# Altium schematic symbol library MCU_Microchip_PIC18.SchLib: 172 symbols (part 1 of 4)
Pins are listed as number, name and electrical type; pins without a type are passive.

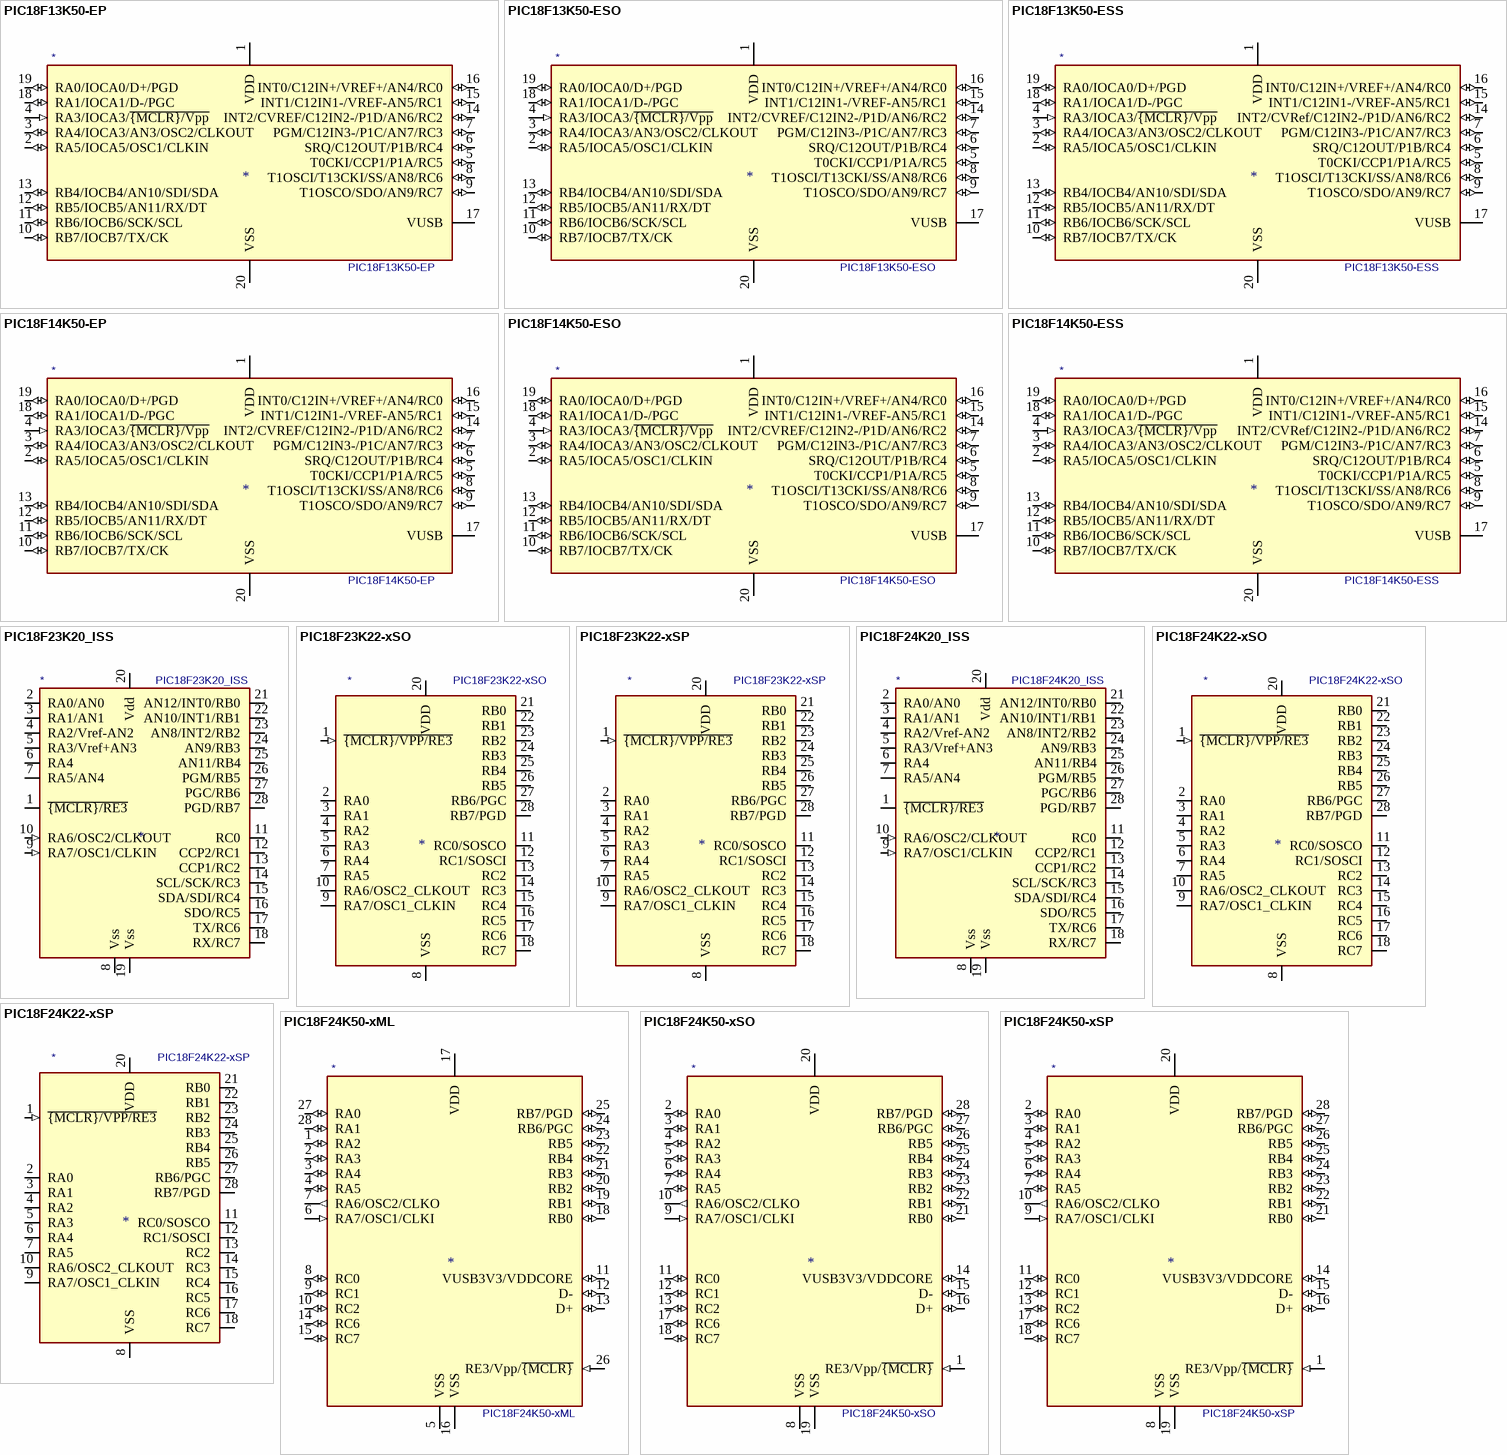
[diagram p0: symbols PIC18F13K50-EP to PIC18F24K50-xSP]

## PIC18F13K50-EP
designator *  value PIC18F13K50-EP
ki_keywords: Flash-Based 8bit CMOS Microcontroller XLP; ki_description: 8K Flash, 512 SRAM, 256 EEPROM, USB, nanoWatt XLP, DIP20; ki_fp_filters: DIP*W7.62mm* PDIP*W7.62mm*; Footprint: Package_DIP:DIP-20_W7.62mm; Supplier: http://ww1.microchip.com/downloads/en/devicedoc/41350c.pdf
footprint DIP-20_W7.62mm
pins: 1 VDD (power), 2 RA5/IOCA5/OSC1/CLKIN (io), 3 RA4/IOCA3/AN3/OSC2/CLKOUT (io), 4 RA3/IOCA3/~{{MCLR}/Vpp} (in), 5 T0CKI/CCP1/P1A/RC5 (io), 6 SRQ/C12OUT/P1B/RC4 (io), 7 PGM/C12IN3-/P1C/AN7/RC3 (io), 8 T1OSCI/T13CKI/SS/AN8/RC6 (io), 9 T1OSCO/SDO/AN9/RC7 (io), 10 RB7/IOCB7/TX/CK (io), 11 RB6/IOCB6/SCK/SCL (io), 12 RB5/IOCB5/AN11/RX/DT (io), 13 RB4/IOCB4/AN10/SDI/SDA (io), 14 INT2/CVREF/C12IN2-/P1D/AN6/RC2 (io), 15 INT1/C12IN1-/VREF-AN5/RC1 (io), 16 INT0/C12IN+/VREF+/AN4/RC0 (io), 17 VUSB, 18 RA1/IOCA1/D-/PGC (io), 19 RA0/IOCA0/D+/PGD (io), 20 VSS (power)

## PIC18F13K50-ESO
designator *  value PIC18F13K50-ESO
ki_keywords: Flash-Based 8bit CMOS Microcontroller XLP; ki_description: 8K Flash, 512 SRAM, 256 EEPROM, USB, nanoWatt XLP, SOIC20; ki_fp_filters: SOIC*W*7.5x12.8mm*P1.27mm*; Footprint: Package_SO:SOIC-20W_7.5x12.8mm_P1.27mm; Supplier: http://ww1.microchip.com/downloads/en/devicedoc/41350c.pdf
footprint SOIC-20W_7.5x12.8mm_P1.27mm
pins: 1 VDD (power), 2 RA5/IOCA5/OSC1/CLKIN (io), 3 RA4/IOCA3/AN3/OSC2/CLKOUT (io), 4 RA3/IOCA3/~{{MCLR}/Vpp} (in), 5 T0CKI/CCP1/P1A/RC5 (io), 6 SRQ/C12OUT/P1B/RC4 (io), 7 PGM/C12IN3-/P1C/AN7/RC3 (io), 8 T1OSCI/T13CKI/SS/AN8/RC6 (io), 9 T1OSCO/SDO/AN9/RC7 (io), 10 RB7/IOCB7/TX/CK (io), 11 RB6/IOCB6/SCK/SCL (io), 12 RB5/IOCB5/AN11/RX/DT (io), 13 RB4/IOCB4/AN10/SDI/SDA (io), 14 INT2/CVREF/C12IN2-/P1D/AN6/RC2 (io), 15 INT1/C12IN1-/VREF-AN5/RC1 (io), 16 INT0/C12IN+/VREF+/AN4/RC0 (io), 17 VUSB, 18 RA1/IOCA1/D-/PGC (io), 19 RA0/IOCA0/D+/PGD (io), 20 VSS (power)

## PIC18F13K50-ESS
designator *  value PIC18F13K50-ESS
ki_keywords: Flash-Based 8bit CMOS Microcontroller XLP; ki_description: 8K Flash, 512 SRAM, 256 EEPROM, USB, nanoWatt XLP, SSOP20; ki_fp_filters: SSOP*5.3x7.2mm*P0.65mm*; Footprint: Package_SO:SSOP-20_5.3x7.2mm_P0.65mm; Supplier: http://ww1.microchip.com/downloads/en/devicedoc/41350c.pdf
footprint SSOP-20_5.3x7.2mm_P0.65mm
pins: 1 VDD (power), 2 RA5/IOCA5/OSC1/CLKIN (io), 3 RA4/IOCA3/AN3/OSC2/CLKOUT (io), 4 RA3/IOCA3/~{{MCLR}/Vpp} (in), 5 T0CKI/CCP1/P1A/RC5 (io), 6 SRQ/C12OUT/P1B/RC4 (io), 7 PGM/C12IN3-/P1C/AN7/RC3 (io), 8 T1OSCI/T13CKI/SS/AN8/RC6 (io), 9 T1OSCO/SDO/AN9/RC7 (io), 10 RB7/IOCB7/TX/CK (io), 11 RB6/IOCB6/SCK/SCL (io), 12 RB5/IOCB5/AN11/RX/DT (io), 13 RB4/IOCB4/AN10/SDI/SDA (io), 14 INT2/CVRef/C12IN2-/P1D/AN6/RC2 (io), 15 INT1/C12IN1-/VREF-AN5/RC1 (io), 16 INT0/C12IN+/VREF+/AN4/RC0 (io), 17 VUSB, 18 RA1/IOCA1/D-/PGC (io), 19 RA0/IOCA0/D+/PGD (io), 20 VSS (power)

## PIC18F14K50-EP
designator *  value PIC18F14K50-EP
ki_keywords: Flash-Based 8bit CMOS Microcontroller XLP; ki_description: 16K Flash, 768 SRAM, 256 EEPROM, USB, nanoWatt XLP, DIP20; ki_fp_filters: DIP*W7.62mm* PDIP*W7.62mm*; Footprint: Package_DIP:DIP-20_W7.62mm; Supplier: http://ww1.microchip.com/downloads/en/devicedoc/41350c.pdf
footprint DIP-20_W7.62mm
pins: 1 VDD (power), 2 RA5/IOCA5/OSC1/CLKIN (io), 3 RA4/IOCA3/AN3/OSC2/CLKOUT (io), 4 RA3/IOCA3/~{{MCLR}/Vpp} (in), 5 T0CKI/CCP1/P1A/RC5 (io), 6 SRQ/C12OUT/P1B/RC4 (io), 7 PGM/C12IN3-/P1C/AN7/RC3 (io), 8 T1OSCI/T13CKI/SS/AN8/RC6 (io), 9 T1OSCO/SDO/AN9/RC7 (io), 10 RB7/IOCB7/TX/CK (io), 11 RB6/IOCB6/SCK/SCL (io), 12 RB5/IOCB5/AN11/RX/DT (io), 13 RB4/IOCB4/AN10/SDI/SDA (io), 14 INT2/CVREF/C12IN2-/P1D/AN6/RC2 (io), 15 INT1/C12IN1-/VREF-AN5/RC1 (io), 16 INT0/C12IN+/VREF+/AN4/RC0 (io), 17 VUSB, 18 RA1/IOCA1/D-/PGC (io), 19 RA0/IOCA0/D+/PGD (io), 20 VSS (power)

## PIC18F14K50-ESO
designator *  value PIC18F14K50-ESO
ki_keywords: Flash-Based 8bit CMOS Microcontroller XLP; ki_description: 16K Flash, 768 SRAM, 256 EEPROM, USB, nanoWatt XLP, SOIC20; ki_fp_filters: SOIC*W*7.5x12.8mm*P1.27mm*; Footprint: Package_SO:SOIC-20W_7.5x12.8mm_P1.27mm; Supplier: http://ww1.microchip.com/downloads/en/devicedoc/41350c.pdf
footprint SOIC-20W_7.5x12.8mm_P1.27mm
pins: 1 VDD (power), 2 RA5/IOCA5/OSC1/CLKIN (io), 3 RA4/IOCA3/AN3/OSC2/CLKOUT (io), 4 RA3/IOCA3/~{{MCLR}/Vpp} (in), 5 T0CKI/CCP1/P1A/RC5 (io), 6 SRQ/C12OUT/P1B/RC4 (io), 7 PGM/C12IN3-/P1C/AN7/RC3 (io), 8 T1OSCI/T13CKI/SS/AN8/RC6 (io), 9 T1OSCO/SDO/AN9/RC7 (io), 10 RB7/IOCB7/TX/CK (io), 11 RB6/IOCB6/SCK/SCL (io), 12 RB5/IOCB5/AN11/RX/DT (io), 13 RB4/IOCB4/AN10/SDI/SDA (io), 14 INT2/CVREF/C12IN2-/P1D/AN6/RC2 (io), 15 INT1/C12IN1-/VREF-AN5/RC1 (io), 16 INT0/C12IN+/VREF+/AN4/RC0 (io), 17 VUSB, 18 RA1/IOCA1/D-/PGC (io), 19 RA0/IOCA0/D+/PGD (io), 20 VSS (power)

## PIC18F14K50-ESS
designator *  value PIC18F14K50-ESS
ki_keywords: Flash-Based 8bit CMOS Microcontroller XLP; ki_description: 16K Flash, 768 SRAM, 256 EEPROM, USB, nanoWatt XLP, SSOP20; ki_fp_filters: SSOP*5.3x7.2mm*P0.65mm*; Footprint: Package_SO:SSOP-20_5.3x7.2mm_P0.65mm; Supplier: http://ww1.microchip.com/downloads/en/devicedoc/41350c.pdf
footprint SSOP-20_5.3x7.2mm_P0.65mm
pins: 1 VDD (power), 2 RA5/IOCA5/OSC1/CLKIN (io), 3 RA4/IOCA3/AN3/OSC2/CLKOUT (io), 4 RA3/IOCA3/~{{MCLR}/Vpp} (in), 5 T0CKI/CCP1/P1A/RC5 (io), 6 SRQ/C12OUT/P1B/RC4 (io), 7 PGM/C12IN3-/P1C/AN7/RC3 (io), 8 T1OSCI/T13CKI/SS/AN8/RC6 (io), 9 T1OSCO/SDO/AN9/RC7 (io), 10 RB7/IOCB7/TX/CK (io), 11 RB6/IOCB6/SCK/SCL (io), 12 RB5/IOCB5/AN11/RX/DT (io), 13 RB4/IOCB4/AN10/SDI/SDA (io), 14 INT2/CVRef/C12IN2-/P1D/AN6/RC2 (io), 15 INT1/C12IN1-/VREF-AN5/RC1 (io), 16 INT0/C12IN+/VREF+/AN4/RC0 (io), 17 VUSB, 18 RA1/IOCA1/D-/PGC (io), 19 RA0/IOCA0/D+/PGD (io), 20 VSS (power)

## PIC18F23K20_ISS
designator *  value PIC18F23K20_ISS
ki_keywords: microcontroller PIC18F flash XLP; ki_description: 8K Flash, 512Byte RAM, 256Byte EEPROM, PIC18 Microcontroller ADC PWM SPI I2C USART in SSOP28 package; ki_fp_filters: SSOP*5.3x10.2mm*P0.65mm*; Footprint: Package_SO:SSOP-28_5.3x10.2mm_P0.65mm; Supplier: http://ww1.microchip.com/downloads/en/DeviceDoc/40001303H.pdf
footprint SSOP-28_5.3x10.2mm_P0.65mm
pins: 1 ~{{MCLR}/RE3} (io), 2 RA0/AN0 (io), 3 RA1/AN1 (io), 4 RA2/Vref-AN2 (io), 5 RA3/Vref+AN3 (io), 6 RA4 (power), 7 RA5/AN4 (io), 8 Vss (power), 9 RA7/OSC1/CLKIN (in), 10 RA6/OSC2/CLKOUT (in), 11 RC0 (io), 12 CCP2/RC1 (io), 13 CCP1/RC2 (io), 14 SCL/SCK/RC3 (io), 15 SDA/SDI/RC4 (io), 16 SDO/RC5 (io), 17 TX/RC6 (io), 18 RX/RC7 (io), 19 Vss (power), 20 Vdd (power), 21 AN12/INT0/RB0 (io), 22 AN10/INT1/RB1 (io), 23 AN8/INT2/RB2 (io), 24 AN9/RB3 (io), 25 AN11/RB4 (io), 26 PGM/RB5 (io), 27 PGC/RB6 (io), 28 PGD/RB7 (io)

## PIC18F23K22-xSO
designator *  value PIC18F23K22-xSO
ki_keywords: Flash-Based 8-Bit Microcontroller XLP; ki_description: 8K Flash, 512B SRAM, 256B EEPROM, nanoWatt XLP, 2.3V to 5.5V, SOIC28; ki_fp_filters: SO*W*7.5x17.9mm*P1.27mm*; Footprint: Package_SO:SOIC-28W_7.5x17.9mm_P1.27mm; Supplier: http://ww1.microchip.com/downloads/en/DeviceDoc/40001412G.pdf
footprint SOIC-28W_7.5x17.9mm_P1.27mm
pins: 1 ~{{MCLR}/VPP/RE3} (in), 2 RA0 (io), 3 RA1 (io), 4 RA2 (io), 5 RA3 (io), 6 RA4 (io), 7 RA5 (io), 8 VSS (power), 9 RA7/OSC1_CLKIN (io), 10 RA6/OSC2_CLKOUT (io), 11 RC0/SOSCO (io), 12 RC1/SOSCI (io), 13 RC2 (io), 14 RC3 (io), 15 RC4 (io), 16 RC5 (io), 17 RC6 (io), 18 RC7 (io), 19 VSS hidden, 20 VDD (power), 21 RB0 (io), 22 RB1 (io), 23 RB2 (io), 24 RB3 (io), 25 RB4 (io), 26 RB5 (io), 27 RB6/PGC (io), 28 RB7/PGD (io)

## PIC18F23K22-xSP
designator *  value PIC18F23K22-xSP
ki_keywords: Flash-Based 8-Bit Microcontroller XLP; ki_description: 8K Flash, 512B SRAM, 256B EEPROM, nanoWatt XLP, 2.3V to 5.5V, SPDIP28; ki_fp_filters: DIP*W7.62mm*; Footprint: Package_DIP:DIP-28_W7.62mm; Supplier: http://ww1.microchip.com/downloads/en/DeviceDoc/40001412G.pdf
footprint DIP-28_W7.62mm
pins: 1 ~{{MCLR}/VPP/RE3} (in), 2 RA0 (io), 3 RA1 (io), 4 RA2 (io), 5 RA3 (io), 6 RA4 (io), 7 RA5 (io), 8 VSS (power), 9 RA7/OSC1_CLKIN (io), 10 RA6/OSC2_CLKOUT (io), 11 RC0/SOSCO (io), 12 RC1/SOSCI (io), 13 RC2 (io), 14 RC3 (io), 15 RC4 (io), 16 RC5 (io), 17 RC6 (io), 18 RC7 (io), 19 VSS hidden, 20 VDD (power), 21 RB0 (io), 22 RB1 (io), 23 RB2 (io), 24 RB3 (io), 25 RB4 (io), 26 RB5 (io), 27 RB6/PGC (io), 28 RB7/PGD (io)

## PIC18F24K20_ISS
designator *  value PIC18F24K20_ISS
ki_keywords: microcontroller PIC18F flash XLP; ki_description: 16K Flash, 768Byte RAM, 256Byte EEPROM, PIC18 Microcontroller ADC PWM SPI I2C USART in SSOP28 package; ki_fp_filters: SSOP*5.3x10.2mm*P0.65mm*; Footprint: Package_SO:SSOP-28_5.3x10.2mm_P0.65mm; Supplier: http://ww1.microchip.com/downloads/en/DeviceDoc/40001303H.pdf
footprint SSOP-28_5.3x10.2mm_P0.65mm
pins: 1 ~{{MCLR}/RE3} (io), 2 RA0/AN0 (io), 3 RA1/AN1 (io), 4 RA2/Vref-AN2 (io), 5 RA3/Vref+AN3 (io), 6 RA4 (power), 7 RA5/AN4 (io), 8 Vss (power), 9 RA7/OSC1/CLKIN (in), 10 RA6/OSC2/CLKOUT (in), 11 RC0 (io), 12 CCP2/RC1 (io), 13 CCP1/RC2 (io), 14 SCL/SCK/RC3 (io), 15 SDA/SDI/RC4 (io), 16 SDO/RC5 (io), 17 TX/RC6 (io), 18 RX/RC7 (io), 19 Vss (power), 20 Vdd (power), 21 AN12/INT0/RB0 (io), 22 AN10/INT1/RB1 (io), 23 AN8/INT2/RB2 (io), 24 AN9/RB3 (io), 25 AN11/RB4 (io), 26 PGM/RB5 (io), 27 PGC/RB6 (io), 28 PGD/RB7 (io)

## PIC18F24K22-xSO
designator *  value PIC18F24K22-xSO
ki_keywords: Flash-Based 8-Bit Microcontroller XLP; ki_description: 16K Flash, 768B SRAM, 256B EEPROM, nanoWatt XLP, 2.3V to 5.5V, SOIC28; ki_fp_filters: SO*W*7.5x17.9mm*P1.27mm*; Footprint: Package_SO:SOIC-28W_7.5x17.9mm_P1.27mm; Supplier: http://ww1.microchip.com/downloads/en/DeviceDoc/40001412G.pdf
footprint SOIC-28W_7.5x17.9mm_P1.27mm
pins: 1 ~{{MCLR}/VPP/RE3} (in), 2 RA0 (io), 3 RA1 (io), 4 RA2 (io), 5 RA3 (io), 6 RA4 (io), 7 RA5 (io), 8 VSS (power), 9 RA7/OSC1_CLKIN (io), 10 RA6/OSC2_CLKOUT (io), 11 RC0/SOSCO (io), 12 RC1/SOSCI (io), 13 RC2 (io), 14 RC3 (io), 15 RC4 (io), 16 RC5 (io), 17 RC6 (io), 18 RC7 (io), 19 VSS hidden, 20 VDD (power), 21 RB0 (io), 22 RB1 (io), 23 RB2 (io), 24 RB3 (io), 25 RB4 (io), 26 RB5 (io), 27 RB6/PGC (io), 28 RB7/PGD (io)

## PIC18F24K22-xSP
designator *  value PIC18F24K22-xSP
ki_keywords: Flash-Based 8-Bit Microcontroller XLP; ki_description: 16K Flash, 768B SRAM, 256B EEPROM, nanoWatt XLP, 2.3V to 5.5V, SPDIP28; ki_fp_filters: DIP*W7.62mm*; Footprint: Package_DIP:DIP-28_W7.62mm; Supplier: http://ww1.microchip.com/downloads/en/DeviceDoc/40001412G.pdf
footprint DIP-28_W7.62mm
pins: 1 ~{{MCLR}/VPP/RE3} (in), 2 RA0 (io), 3 RA1 (io), 4 RA2 (io), 5 RA3 (io), 6 RA4 (io), 7 RA5 (io), 8 VSS (power), 9 RA7/OSC1_CLKIN (io), 10 RA6/OSC2_CLKOUT (io), 11 RC0/SOSCO (io), 12 RC1/SOSCI (io), 13 RC2 (io), 14 RC3 (io), 15 RC4 (io), 16 RC5 (io), 17 RC6 (io), 18 RC7 (io), 19 VSS hidden, 20 VDD (power), 21 RB0 (io), 22 RB1 (io), 23 RB2 (io), 24 RB3 (io), 25 RB4 (io), 26 RB5 (io), 27 RB6/PGC (io), 28 RB7/PGD (io)

## PIC18F24K50-xML
designator *  value PIC18F24K50-xML
ki_keywords: Flash-Based 8-Bit Microcontroller XLP; ki_description: 16K Flash, 2K SRAM, 256 EEPROM, USB, nanoWatt XLP, 2.3V to 5.5V, QFN28; ki_fp_filters: QFN*1EP*6x6mm*P0.65mm*; Footprint: Package_DFN_QFN:QFN-28-1EP_6x6mm_P0.65mm_EP4.25x4.25mm; Supplier: http://ww1.microchip.com/downloads/en/devicedoc/30000684B.pdf
footprint QFN-28-1EP_6x6mm_P0.65mm_EP4.25x4.25mm
pins: 1 RA2 (io), 2 RA3 (io), 3 RA4 (io), 4 RA5 (io), 5 VSS (power), 6 RA7/OSC1/CLKI (in), 7 RA6/OSC2/CLKO (out), 8 RC0 (io), 9 RC1 (io), 10 RC2 (io), 11 VUSB3V3/VDDCORE (io), 12 D- (io), 13 D+ (io), 14 RC6 (io), 15 RC7 (io), 16 VSS (power), 17 VDD (power), 18 RB0 (io), 19 RB1 (io), 20 RB2 (io), 21 RB3 (io), 22 RB4 (io), 23 RB5 (io), 24 RB6/PGC (io), 25 RB7/PGD (io), 26 RE3/Vpp/~{{MCLR}} (in), 27 RA0 (io), 28 RA1 (io)

## PIC18F24K50-xSO
designator *  value PIC18F24K50-xSO
ki_keywords: Flash-Based 8-Bit Microcontroller XLP; ki_description: 16K Flash, 2K SRAM, 256 EEPROM, USB, nanoWatt XLP, 2.3V to 5.5V, SOIC28; ki_fp_filters: SO*W*7.5x17.9mm*P1.27mm*; Footprint: Package_SO:SOIC-28W_7.5x17.9mm_P1.27mm; Supplier: http://ww1.microchip.com/downloads/en/devicedoc/30000684B.pdf
footprint SOIC-28W_7.5x17.9mm_P1.27mm
pins: 1 RE3/Vpp/~{{MCLR}} (in), 2 RA0 (io), 3 RA1 (io), 4 RA2 (io), 5 RA3 (io), 6 RA4 (io), 7 RA5 (io), 8 VSS (power), 9 RA7/OSC1/CLKI (in), 10 RA6/OSC2/CLKO (out), 11 RC0 (io), 12 RC1 (io), 13 RC2 (io), 14 VUSB3V3/VDDCORE (io), 15 D- (io), 16 D+ (io), 17 RC6 (io), 18 RC7 (io), 19 VSS (power), 20 VDD (power), 21 RB0 (io), 22 RB1 (io), 23 RB2 (io), 24 RB3 (io), 25 RB4 (io), 26 RB5 (io), 27 RB6/PGC (io), 28 RB7/PGD (io)

## PIC18F24K50-xSP
designator *  value PIC18F24K50-xSP
ki_keywords: Flash-Based 8-Bit Microcontroller XLP; ki_description: 16K Flash, 2K SRAM, 256 EEPROM, USB, nanoWatt XLP, 2.3V to 5.5V, SPDIP28; ki_fp_filters: SPDIP*W7.62mm* DIP*W7.62mm* PDIP*W7.62mm*; Footprint: Package_DIP:DIP-28_W7.62mm; Supplier: http://ww1.microchip.com/downloads/en/devicedoc/30000684B.pdf
footprint DIP-28_W7.62mm
pins: 1 RE3/Vpp/~{{MCLR}} (in), 2 RA0 (io), 3 RA1 (io), 4 RA2 (io), 5 RA3 (io), 6 RA4 (io), 7 RA5 (io), 8 VSS (power), 9 RA7/OSC1/CLKI (in), 10 RA6/OSC2/CLKO (out), 11 RC0 (io), 12 RC1 (io), 13 RC2 (io), 14 VUSB3V3/VDDCORE (io), 15 D- (io), 16 D+ (io), 17 RC6 (io), 18 RC7 (io), 19 VSS (power), 20 VDD (power), 21 RB0 (io), 22 RB1 (io), 23 RB2 (io), 24 RB3 (io), 25 RB4 (io), 26 RB5 (io), 27 RB6/PGC (io), 28 RB7/PGD (io)

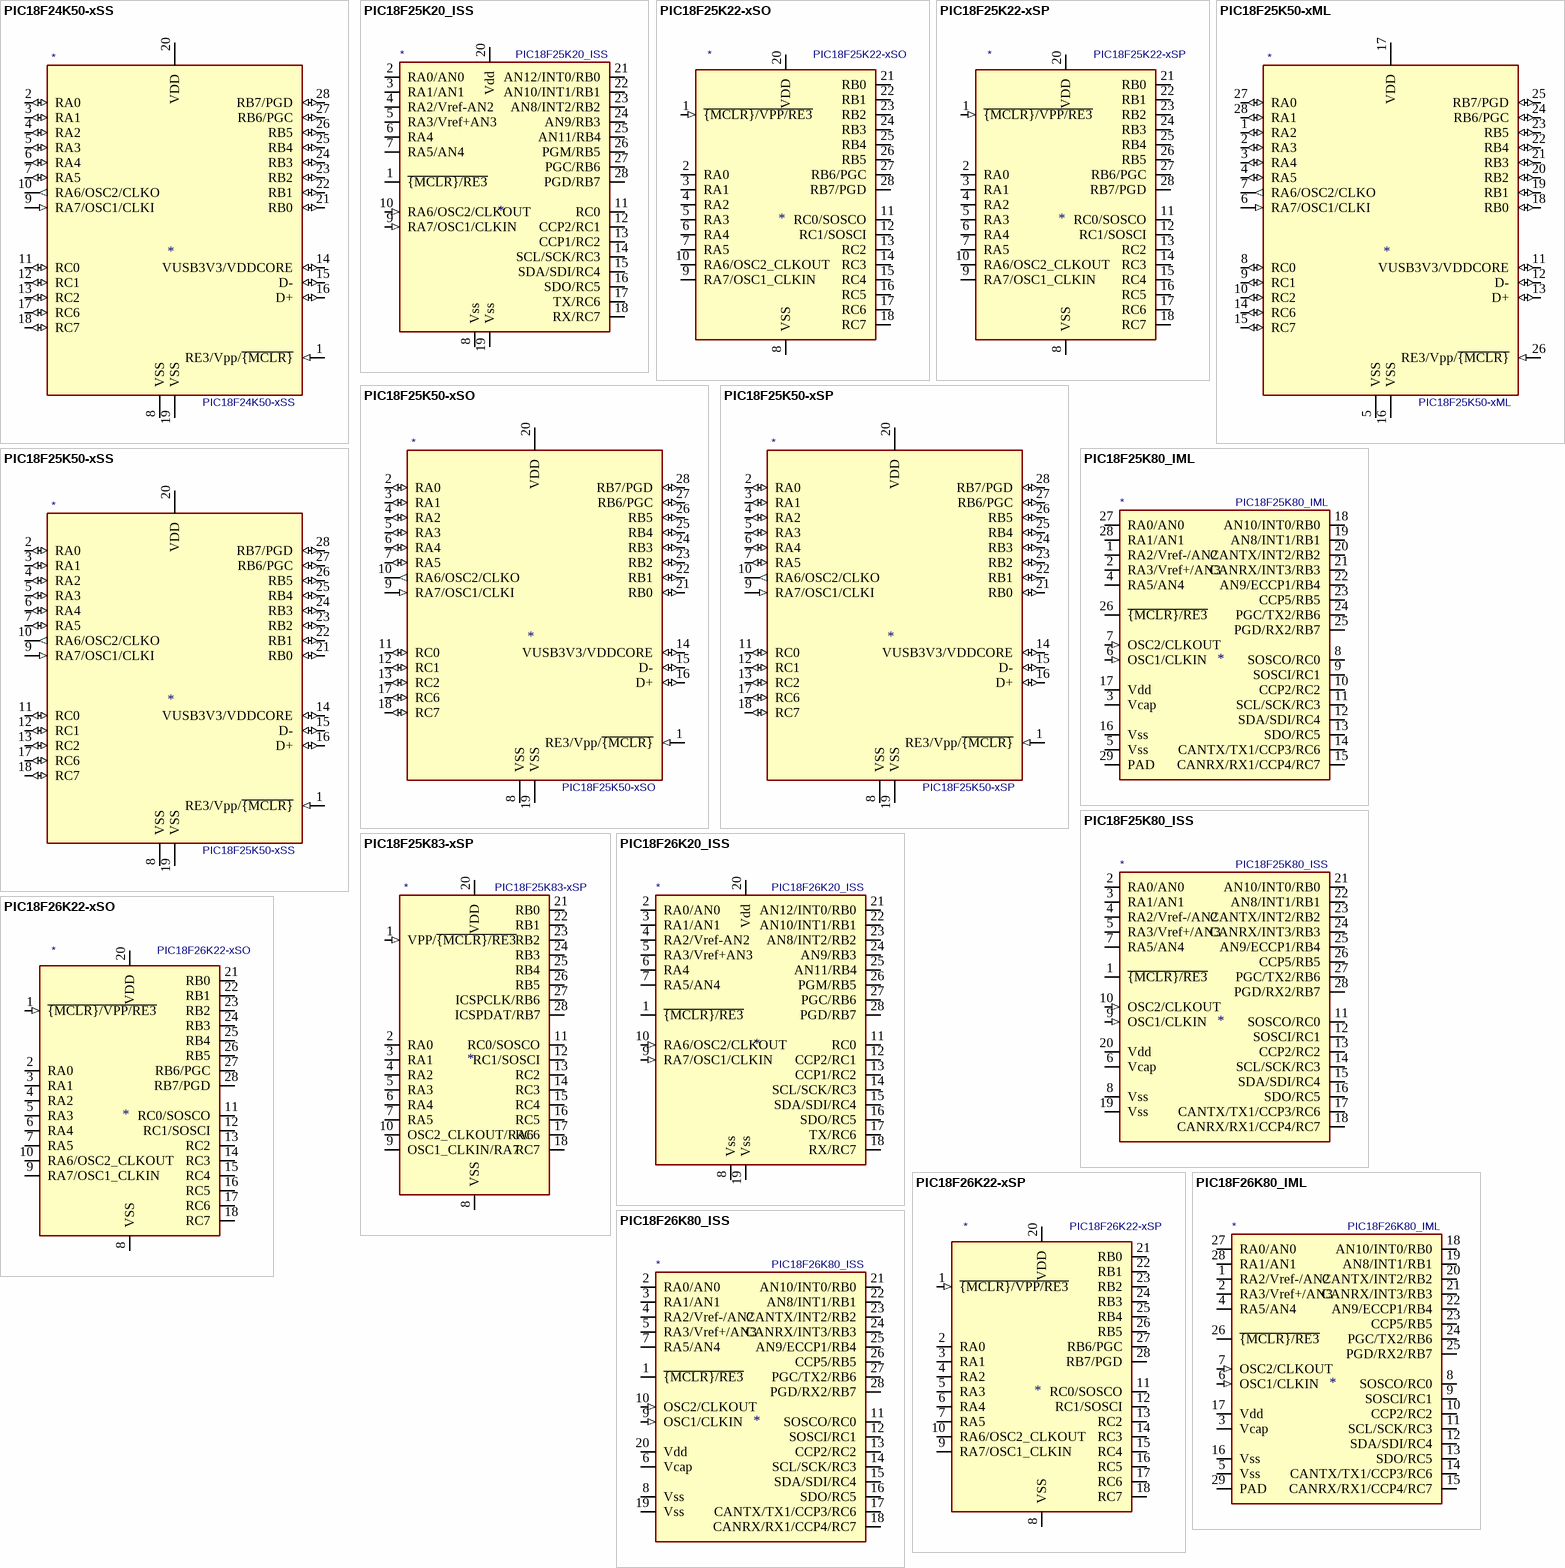
[diagram p1: symbols PIC18F24K50-xSS to PIC18F26K80_ISS]

## PIC18F24K50-xSS
designator *  value PIC18F24K50-xSS
ki_keywords: Flash-Based 8-Bit Microcontroller XLP; ki_description: 16K Flash, 2K SRAM, 256 EEPROM, USB, nanoWatt XLP, 2.3V to 5.5V, SSOP28; ki_fp_filters: SSOP*5.3x10.2mm*P0.65mm*; Footprint: Package_SO:SSOP-28_5.3x10.2mm_P0.65mm; Supplier: http://ww1.microchip.com/downloads/en/devicedoc/30000684B.pdf
footprint SSOP-28_5.3x10.2mm_P0.65mm
pins: 1 RE3/Vpp/~{{MCLR}} (in), 2 RA0 (io), 3 RA1 (io), 4 RA2 (io), 5 RA3 (io), 6 RA4 (io), 7 RA5 (io), 8 VSS (power), 9 RA7/OSC1/CLKI (in), 10 RA6/OSC2/CLKO (out), 11 RC0 (io), 12 RC1 (io), 13 RC2 (io), 14 VUSB3V3/VDDCORE (io), 15 D- (io), 16 D+ (io), 17 RC6 (io), 18 RC7 (io), 19 VSS (power), 20 VDD (power), 21 RB0 (io), 22 RB1 (io), 23 RB2 (io), 24 RB3 (io), 25 RB4 (io), 26 RB5 (io), 27 RB6/PGC (io), 28 RB7/PGD (io)

## PIC18F25K20_ISS
designator *  value PIC18F25K20_ISS
ki_keywords: microcontroller PIC18F flash XLP; ki_description: 32K Flash, 1536Byte RAM, 256Byte EEPROM, PIC18 Microcontroller ADC PWM SPI I2C USART in SSOP28 package; ki_fp_filters: SSOP*5.3x10.2mm*P0.65mm*; Footprint: Package_SO:SSOP-28_5.3x10.2mm_P0.65mm; Supplier: http://ww1.microchip.com/downloads/en/DeviceDoc/40001303H.pdf
footprint SSOP-28_5.3x10.2mm_P0.65mm
pins: 1 ~{{MCLR}/RE3} (io), 2 RA0/AN0 (io), 3 RA1/AN1 (io), 4 RA2/Vref-AN2 (io), 5 RA3/Vref+AN3 (io), 6 RA4 (power), 7 RA5/AN4 (io), 8 Vss (power), 9 RA7/OSC1/CLKIN (in), 10 RA6/OSC2/CLKOUT (in), 11 RC0 (io), 12 CCP2/RC1 (io), 13 CCP1/RC2 (io), 14 SCL/SCK/RC3 (io), 15 SDA/SDI/RC4 (io), 16 SDO/RC5 (io), 17 TX/RC6 (io), 18 RX/RC7 (io), 19 Vss (power), 20 Vdd (power), 21 AN12/INT0/RB0 (io), 22 AN10/INT1/RB1 (io), 23 AN8/INT2/RB2 (io), 24 AN9/RB3 (io), 25 AN11/RB4 (io), 26 PGM/RB5 (io), 27 PGC/RB6 (io), 28 PGD/RB7 (io)

## PIC18F25K22-xSO
designator *  value PIC18F25K22-xSO
ki_keywords: Flash-Based 8-Bit Microcontroller XLP; ki_description: 32K Flash, 1536B SRAM, 256B EEPROM, nanoWatt XLP, 2.3V to 5.5V, SOIC28; ki_fp_filters: SO*W*7.5x17.9mm*P1.27mm*; Footprint: Package_SO:SOIC-28W_7.5x17.9mm_P1.27mm; Supplier: http://ww1.microchip.com/downloads/en/DeviceDoc/40001412G.pdf
footprint SOIC-28W_7.5x17.9mm_P1.27mm
pins: 1 ~{{MCLR}/VPP/RE3} (in), 2 RA0 (io), 3 RA1 (io), 4 RA2 (io), 5 RA3 (io), 6 RA4 (io), 7 RA5 (io), 8 VSS (power), 9 RA7/OSC1_CLKIN (io), 10 RA6/OSC2_CLKOUT (io), 11 RC0/SOSCO (io), 12 RC1/SOSCI (io), 13 RC2 (io), 14 RC3 (io), 15 RC4 (io), 16 RC5 (io), 17 RC6 (io), 18 RC7 (io), 19 VSS hidden, 20 VDD (power), 21 RB0 (io), 22 RB1 (io), 23 RB2 (io), 24 RB3 (io), 25 RB4 (io), 26 RB5 (io), 27 RB6/PGC (io), 28 RB7/PGD (io)

## PIC18F25K22-xSP
designator *  value PIC18F25K22-xSP
ki_keywords: Flash-Based 8-Bit Microcontroller XLP; ki_description: 32K Flash, 1536B SRAM, 256B EEPROM, nanoWatt XLP, 2.3V to 5.5V, SPDIP28; ki_fp_filters: DIP*W7.62mm*; Footprint: Package_DIP:DIP-28_W7.62mm; Supplier: http://ww1.microchip.com/downloads/en/DeviceDoc/40001412G.pdf
footprint DIP-28_W7.62mm
pins: 1 ~{{MCLR}/VPP/RE3} (in), 2 RA0 (io), 3 RA1 (io), 4 RA2 (io), 5 RA3 (io), 6 RA4 (io), 7 RA5 (io), 8 VSS (power), 9 RA7/OSC1_CLKIN (io), 10 RA6/OSC2_CLKOUT (io), 11 RC0/SOSCO (io), 12 RC1/SOSCI (io), 13 RC2 (io), 14 RC3 (io), 15 RC4 (io), 16 RC5 (io), 17 RC6 (io), 18 RC7 (io), 19 VSS hidden, 20 VDD (power), 21 RB0 (io), 22 RB1 (io), 23 RB2 (io), 24 RB3 (io), 25 RB4 (io), 26 RB5 (io), 27 RB6/PGC (io), 28 RB7/PGD (io)

## PIC18F25K50-xML
designator *  value PIC18F25K50-xML
ki_keywords: Flash-Based 8-Bit Microcontroller XLP; ki_description: 32K Flash, 2K SRAM, 256 EEPROM, USB, nanoWatt XLP, 2.3V to 5.5V, QFN28; ki_fp_filters: QFN*1EP*6x6mm*P0.65mm*; Footprint: Package_DFN_QFN:QFN-28-1EP_6x6mm_P0.65mm_EP4.25x4.25mm; Supplier: http://ww1.microchip.com/downloads/en/devicedoc/30000684B.pdf
footprint QFN-28-1EP_6x6mm_P0.65mm_EP4.25x4.25mm
pins: 1 RA2 (io), 2 RA3 (io), 3 RA4 (io), 4 RA5 (io), 5 VSS (power), 6 RA7/OSC1/CLKI (in), 7 RA6/OSC2/CLKO (out), 8 RC0 (io), 9 RC1 (io), 10 RC2 (io), 11 VUSB3V3/VDDCORE (io), 12 D- (io), 13 D+ (io), 14 RC6 (io), 15 RC7 (io), 16 VSS (power), 17 VDD (power), 18 RB0 (io), 19 RB1 (io), 20 RB2 (io), 21 RB3 (io), 22 RB4 (io), 23 RB5 (io), 24 RB6/PGC (io), 25 RB7/PGD (io), 26 RE3/Vpp/~{{MCLR}} (in), 27 RA0 (io), 28 RA1 (io)

## PIC18F25K50-xSO
designator *  value PIC18F25K50-xSO
ki_keywords: Flash-Based 8-Bit Microcontroller XLP; ki_description: 32K Flash, 2K SRAM, 256 EEPROM, USB, nanoWatt XLP, 2.3V to 5.5V, SOIC28; ki_fp_filters: SO*W*7.5x17.9mm*P1.27mm*; Footprint: Package_SO:SOIC-28W_7.5x17.9mm_P1.27mm; Supplier: http://ww1.microchip.com/downloads/en/devicedoc/30000684B.pdf
footprint SOIC-28W_7.5x17.9mm_P1.27mm
pins: 1 RE3/Vpp/~{{MCLR}} (in), 2 RA0 (io), 3 RA1 (io), 4 RA2 (io), 5 RA3 (io), 6 RA4 (io), 7 RA5 (io), 8 VSS (power), 9 RA7/OSC1/CLKI (in), 10 RA6/OSC2/CLKO (out), 11 RC0 (io), 12 RC1 (io), 13 RC2 (io), 14 VUSB3V3/VDDCORE (io), 15 D- (io), 16 D+ (io), 17 RC6 (io), 18 RC7 (io), 19 VSS (power), 20 VDD (power), 21 RB0 (io), 22 RB1 (io), 23 RB2 (io), 24 RB3 (io), 25 RB4 (io), 26 RB5 (io), 27 RB6/PGC (io), 28 RB7/PGD (io)

## PIC18F25K50-xSP
designator *  value PIC18F25K50-xSP
ki_keywords: Flash-Based 8-Bit Microcontroller XLP; ki_description: 32K Flash, 2K SRAM, 256 EEPROM, USB, nanoWatt XLP, 2.3V to 5.5V, SPDIP28; ki_fp_filters: SPDIP*W7.62mm* DIP*W7.62mm* PDIP*W7.62mm*; Footprint: Package_DIP:DIP-28_W7.62mm; Supplier: http://ww1.microchip.com/downloads/en/devicedoc/30000684B.pdf
footprint DIP-28_W7.62mm
pins: 1 RE3/Vpp/~{{MCLR}} (in), 2 RA0 (io), 3 RA1 (io), 4 RA2 (io), 5 RA3 (io), 6 RA4 (io), 7 RA5 (io), 8 VSS (power), 9 RA7/OSC1/CLKI (in), 10 RA6/OSC2/CLKO (out), 11 RC0 (io), 12 RC1 (io), 13 RC2 (io), 14 VUSB3V3/VDDCORE (io), 15 D- (io), 16 D+ (io), 17 RC6 (io), 18 RC7 (io), 19 VSS (power), 20 VDD (power), 21 RB0 (io), 22 RB1 (io), 23 RB2 (io), 24 RB3 (io), 25 RB4 (io), 26 RB5 (io), 27 RB6/PGC (io), 28 RB7/PGD (io)

## PIC18F25K50-xSS
designator *  value PIC18F25K50-xSS
ki_keywords: Flash-Based 8-Bit Microcontroller XLP; ki_description: 32K Flash, 2K SRAM, 256 EEPROM, USB, nanoWatt XLP, 2.3V to 5.5V, SSOP28; ki_fp_filters: SSOP*5.3x10.2mm*P0.65mm*; Footprint: Package_SO:SSOP-28_5.3x10.2mm_P0.65mm; Supplier: http://ww1.microchip.com/downloads/en/devicedoc/30000684B.pdf
footprint SSOP-28_5.3x10.2mm_P0.65mm
pins: 1 RE3/Vpp/~{{MCLR}} (in), 2 RA0 (io), 3 RA1 (io), 4 RA2 (io), 5 RA3 (io), 6 RA4 (io), 7 RA5 (io), 8 VSS (power), 9 RA7/OSC1/CLKI (in), 10 RA6/OSC2/CLKO (out), 11 RC0 (io), 12 RC1 (io), 13 RC2 (io), 14 VUSB3V3/VDDCORE (io), 15 D- (io), 16 D+ (io), 17 RC6 (io), 18 RC7 (io), 19 VSS (power), 20 VDD (power), 21 RB0 (io), 22 RB1 (io), 23 RB2 (io), 24 RB3 (io), 25 RB4 (io), 26 RB5 (io), 27 RB6/PGC (io), 28 RB7/PGD (io)

## PIC18F25K80_IML
designator *  value PIC18F25K80_IML
ki_keywords: microcontroller PIC18 flash ECAN XLP nanoWatt; ki_description: 32K Flash, 3.5K RAM, 1K EEPROM PIC18 Microcontroller ADC PWM CAN SPI I2C USART in QFN28 package; ki_fp_filters: QFN*1EP*6x6mm*P0.65mm*; Footprint: Package_DFN_QFN:QFN-28-1EP_6x6mm_P0.65mm_EP4.25x4.25mm; Supplier: http://ww1.microchip.com/downloads/en/DeviceDoc/39977f.pdf
footprint QFN-28-1EP_6x6mm_P0.65mm_EP4.25x4.25mm
pins: 1 RA2/Vref-/AN2 (io), 2 RA3/Vref+/AN3 (io), 3 Vcap (power), 4 RA5/AN4 (io), 5 Vss (power), 6 OSC1/CLKIN (in), 7 OSC2/CLKOUT (in), 8 SOSCO/RC0 (io), 9 SOSCI/RC1 (io), 10 CCP2/RC2 (io), 11 SCL/SCK/RC3 (io), 12 SDA/SDI/RC4 (io), 13 SDO/RC5 (io), 14 CANTX/TX1/CCP3/RC6 (io), 15 CANRX/RX1/CCP4/RC7 (io), 16 Vss (power), 17 Vdd (power), 18 AN10/INT0/RB0 (io), 19 AN8/INT1/RB1 (io), 20 CANTX/INT2/RB2 (io), 21 CANRX/INT3/RB3 (io), 22 AN9/ECCP1/RB4 (io), 23 CCP5/RB5 (io), 24 PGC/TX2/RB6 (io), 25 PGD/RX2/RB7 (io), 26 ~{{MCLR}/RE3} (io), 27 RA0/AN0 (io), 28 RA1/AN1 (io), 29 PAD (power)

## PIC18F25K80_ISS
designator *  value PIC18F25K80_ISS
ki_keywords: microcontroller PIC18 flash ECAN XLP nanoWatt; ki_description: 32K Flash, 3.5K RAM, 1K EEPROM, PIC18 Microcontroller ADC PWM CAN SPI I2C USART in SSOP28 package; ki_fp_filters: SSOP*5.3x10.2mm*P0.65mm*; Footprint: Package_SO:SSOP-28_5.3x10.2mm_P0.65mm; Supplier: http://ww1.microchip.com/downloads/en/DeviceDoc/39977f.pdf
footprint SSOP-28_5.3x10.2mm_P0.65mm
pins: 1 ~{{MCLR}/RE3} (io), 2 RA0/AN0 (io), 3 RA1/AN1 (io), 4 RA2/Vref-/AN2 (io), 5 RA3/Vref+/AN3 (io), 6 Vcap (power), 7 RA5/AN4 (io), 8 Vss (power), 9 OSC1/CLKIN (in), 10 OSC2/CLKOUT (in), 11 SOSCO/RC0 (io), 12 SOSCI/RC1 (io), 13 CCP2/RC2 (io), 14 SCL/SCK/RC3 (io), 15 SDA/SDI/RC4 (io), 16 SDO/RC5 (io), 17 CANTX/TX1/CCP3/RC6 (io), 18 CANRX/RX1/CCP4/RC7 (io), 19 Vss (power), 20 Vdd (power), 21 AN10/INT0/RB0 (io), 22 AN8/INT1/RB1 (io), 23 CANTX/INT2/RB2 (io), 24 CANRX/INT3/RB3 (io), 25 AN9/ECCP1/RB4 (io), 26 CCP5/RB5 (io), 27 PGC/TX2/RB6 (io), 28 PGD/RX2/RB7 (io)

## PIC18F25K83-xSP
designator *  value PIC18F25K83-xSP
ki_keywords: microcontroller Microchip DMA WWDT DIA DCI XLP CLC CWG CCP NCO DSM CRC UART LIN DMX DALI SPI CAN I2C PPS SMT ADC2 CVD DAC; ki_description: 32K Flash, 2K RAM, 1K EEPROM, 2.3-5.5V, PIC18, low-power microcontroller with CAN, DIP-28; ki_fp_filters: DIP*W7.62mm*; Footprint: Package_DIP:DIP-28_W7.62mm; Supplier: http://ww1.microchip.com/downloads/en/DeviceDoc/40001943A.pdf
footprint DIP-28_W7.62mm
pins: 1 VPP/~{{MCLR}/RE3} (in), 2 RA0 (io), 3 RA1 (io), 4 RA2 (io), 5 RA3 (io), 6 RA4 (io), 7 RA5 (io), 8 VSS (power), 9 OSC1_CLKIN/RA7 (io), 10 OSC2_CLKOUT/RA6 (io), 11 RC0/SOSCO (io), 12 RC1/SOSCI (io), 13 RC2 (io), 14 RC3 (io), 15 RC4 (io), 16 RC5 (io), 17 RC6 (io), 18 RC7 (io), 19 VSS hidden, 20 VDD (power), 21 RB0 (io), 22 RB1 (io), 23 RB2 (io), 24 RB3 (io), 25 RB4 (io), 26 RB5 (io), 27 ICSPCLK/RB6 (io), 28 ICSPDAT/RB7 (io)

## PIC18F26K20_ISS
designator *  value PIC18F26K20_ISS
ki_keywords: microcontroller PIC18F flash XLP; ki_description: 64K Flash, 3936Byte RAM, 1KByte EEPROM, PIC18 Microcontroller ADC PWM SPI I2C USART in SSOP28 package; ki_fp_filters: SSOP*5.3x10.2mm*P0.65mm*; Footprint: Package_SO:SSOP-28_5.3x10.2mm_P0.65mm; Supplier: http://ww1.microchip.com/downloads/en/DeviceDoc/40001303H.pdf
footprint SSOP-28_5.3x10.2mm_P0.65mm
pins: 1 ~{{MCLR}/RE3} (io), 2 RA0/AN0 (io), 3 RA1/AN1 (io), 4 RA2/Vref-AN2 (io), 5 RA3/Vref+AN3 (io), 6 RA4 (power), 7 RA5/AN4 (io), 8 Vss (power), 9 RA7/OSC1/CLKIN (in), 10 RA6/OSC2/CLKOUT (in), 11 RC0 (io), 12 CCP2/RC1 (io), 13 CCP1/RC2 (io), 14 SCL/SCK/RC3 (io), 15 SDA/SDI/RC4 (io), 16 SDO/RC5 (io), 17 TX/RC6 (io), 18 RX/RC7 (io), 19 Vss (power), 20 Vdd (power), 21 AN12/INT0/RB0 (io), 22 AN10/INT1/RB1 (io), 23 AN8/INT2/RB2 (io), 24 AN9/RB3 (io), 25 AN11/RB4 (io), 26 PGM/RB5 (io), 27 PGC/RB6 (io), 28 PGD/RB7 (io)

## PIC18F26K22-xSO
designator *  value PIC18F26K22-xSO
ki_keywords: Flash-Based 8-Bit Microcontroller XLP; ki_description: 64K Flash, 3896B SRAM, 1024B EEPROM, nanoWatt XLP, 2.3V to 5.5V, SOIC28; ki_fp_filters: SO*W*7.5x17.9mm*P1.27mm*; Footprint: Package_SO:SOIC-28W_7.5x17.9mm_P1.27mm; Supplier: http://ww1.microchip.com/downloads/en/DeviceDoc/40001412G.pdf
footprint SOIC-28W_7.5x17.9mm_P1.27mm
pins: 1 ~{{MCLR}/VPP/RE3} (in), 2 RA0 (io), 3 RA1 (io), 4 RA2 (io), 5 RA3 (io), 6 RA4 (io), 7 RA5 (io), 8 VSS (power), 9 RA7/OSC1_CLKIN (io), 10 RA6/OSC2_CLKOUT (io), 11 RC0/SOSCO (io), 12 RC1/SOSCI (io), 13 RC2 (io), 14 RC3 (io), 15 RC4 (io), 16 RC5 (io), 17 RC6 (io), 18 RC7 (io), 19 VSS hidden, 20 VDD (power), 21 RB0 (io), 22 RB1 (io), 23 RB2 (io), 24 RB3 (io), 25 RB4 (io), 26 RB5 (io), 27 RB6/PGC (io), 28 RB7/PGD (io)

## PIC18F26K22-xSP
designator *  value PIC18F26K22-xSP
ki_keywords: Flash-Based 8-Bit Microcontroller XLP; ki_description: 64K Flash, 3896B SRAM, 1024B EEPROM, nanoWatt XLP, 2.3V to 5.5V, SPDIP28; ki_fp_filters: DIP*W7.62mm*; Footprint: Package_DIP:DIP-28_W7.62mm; Supplier: http://ww1.microchip.com/downloads/en/DeviceDoc/40001412G.pdf
footprint DIP-28_W7.62mm
pins: 1 ~{{MCLR}/VPP/RE3} (in), 2 RA0 (io), 3 RA1 (io), 4 RA2 (io), 5 RA3 (io), 6 RA4 (io), 7 RA5 (io), 8 VSS (power), 9 RA7/OSC1_CLKIN (io), 10 RA6/OSC2_CLKOUT (io), 11 RC0/SOSCO (io), 12 RC1/SOSCI (io), 13 RC2 (io), 14 RC3 (io), 15 RC4 (io), 16 RC5 (io), 17 RC6 (io), 18 RC7 (io), 19 VSS hidden, 20 VDD (power), 21 RB0 (io), 22 RB1 (io), 23 RB2 (io), 24 RB3 (io), 25 RB4 (io), 26 RB5 (io), 27 RB6/PGC (io), 28 RB7/PGD (io)

## PIC18F26K80_IML
designator *  value PIC18F26K80_IML
ki_keywords: microcontroller PIC18 flash ECAN XLP nanoWatt; ki_description: 64K Flash, 3.5K RAM, 1K EEPROM PIC18 Microcontroller ADC PWM CAN SPI I2C USART in QFN28 package; ki_fp_filters: QFN*1EP*6x6mm*P0.65mm*; Footprint: Package_DFN_QFN:QFN-28-1EP_6x6mm_P0.65mm_EP4.25x4.25mm; Supplier: http://ww1.microchip.com/downloads/en/DeviceDoc/39977f.pdf
footprint QFN-28-1EP_6x6mm_P0.65mm_EP4.25x4.25mm
pins: 1 RA2/Vref-/AN2 (io), 2 RA3/Vref+/AN3 (io), 3 Vcap (power), 4 RA5/AN4 (io), 5 Vss (power), 6 OSC1/CLKIN (in), 7 OSC2/CLKOUT (in), 8 SOSCO/RC0 (io), 9 SOSCI/RC1 (io), 10 CCP2/RC2 (io), 11 SCL/SCK/RC3 (io), 12 SDA/SDI/RC4 (io), 13 SDO/RC5 (io), 14 CANTX/TX1/CCP3/RC6 (io), 15 CANRX/RX1/CCP4/RC7 (io), 16 Vss (power), 17 Vdd (power), 18 AN10/INT0/RB0 (io), 19 AN8/INT1/RB1 (io), 20 CANTX/INT2/RB2 (io), 21 CANRX/INT3/RB3 (io), 22 AN9/ECCP1/RB4 (io), 23 CCP5/RB5 (io), 24 PGC/TX2/RB6 (io), 25 PGD/RX2/RB7 (io), 26 ~{{MCLR}/RE3} (io), 27 RA0/AN0 (io), 28 RA1/AN1 (io), 29 PAD (power)

## PIC18F26K80_ISS
designator *  value PIC18F26K80_ISS
ki_keywords: microcontroller PIC18 flash ECAN XLP nanoWatt; ki_description: 64K Flash, 3.5K RAM, 1K EEPROM PIC18 Microcontroller ADC PWM CAN SPI I2C USART in SSOP28 package; ki_fp_filters: SSOP*5.3x10.2mm*P0.65mm*; Footprint: Package_SO:SSOP-28_5.3x10.2mm_P0.65mm; Supplier: http://ww1.microchip.com/downloads/en/DeviceDoc/39977f.pdf
footprint SSOP-28_5.3x10.2mm_P0.65mm
pins: 1 ~{{MCLR}/RE3} (io), 2 RA0/AN0 (io), 3 RA1/AN1 (io), 4 RA2/Vref-/AN2 (io), 5 RA3/Vref+/AN3 (io), 6 Vcap (power), 7 RA5/AN4 (io), 8 Vss (power), 9 OSC1/CLKIN (in), 10 OSC2/CLKOUT (in), 11 SOSCO/RC0 (io), 12 SOSCI/RC1 (io), 13 CCP2/RC2 (io), 14 SCL/SCK/RC3 (io), 15 SDA/SDI/RC4 (io), 16 SDO/RC5 (io), 17 CANTX/TX1/CCP3/RC6 (io), 18 CANRX/RX1/CCP4/RC7 (io), 19 Vss (power), 20 Vdd (power), 21 AN10/INT0/RB0 (io), 22 AN8/INT1/RB1 (io), 23 CANTX/INT2/RB2 (io), 24 CANRX/INT3/RB3 (io), 25 AN9/ECCP1/RB4 (io), 26 CCP5/RB5 (io), 27 PGC/TX2/RB6 (io), 28 PGD/RX2/RB7 (io)

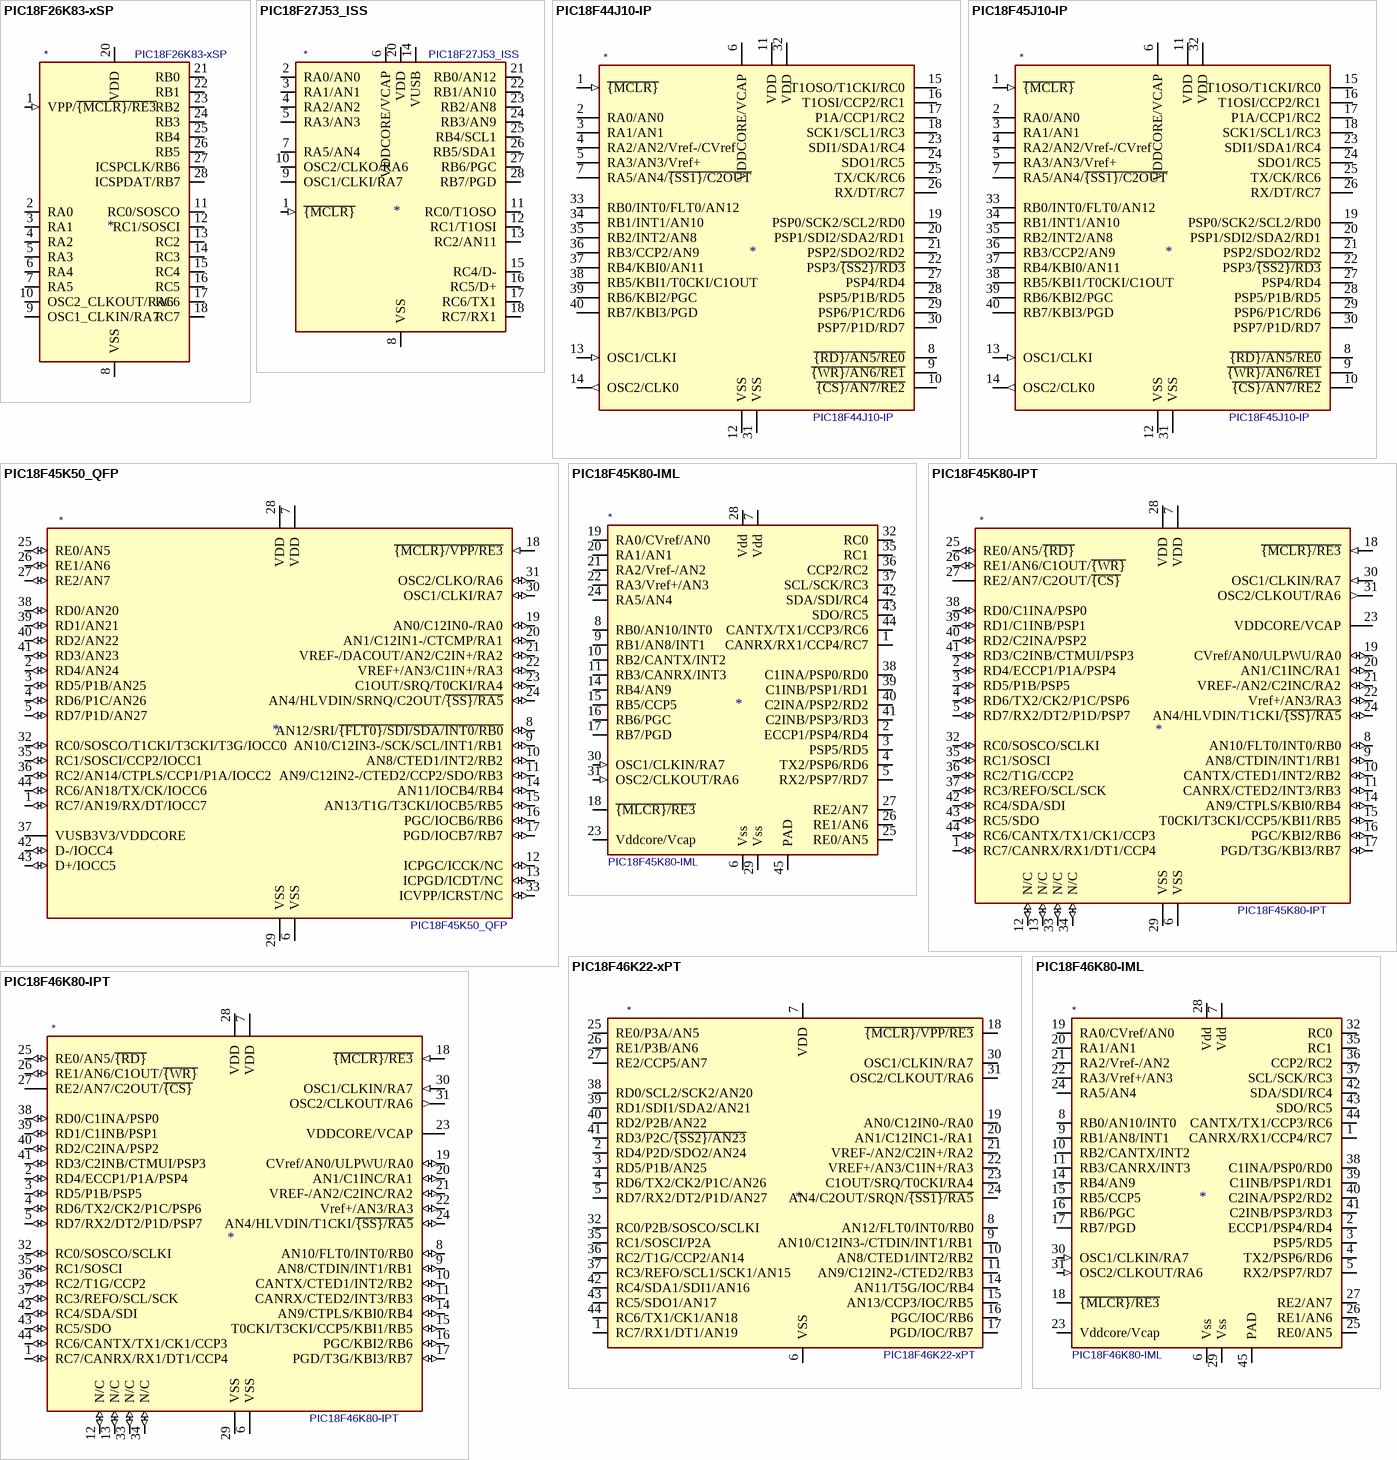
[diagram p2: symbols PIC18F26K83-xSP to PIC18F46K80-IPT]

## PIC18F26K83-xSP
designator *  value PIC18F26K83-xSP
ki_keywords: microcontroller Microchip DMA WWDT DIA DCI XLP CLC CWG CCP NCO DSM CRC UART LIN DMX DALI SPI CAN I2C PPS SMT ADC2 CVD DAC; ki_description: 64K Flash, 4K RAM, 1K EEPROM, 2.3-5.5V, PIC18, low-power microcontroller with CAN, DIP-28; ki_fp_filters: DIP*W7.62mm*; Footprint: Package_DIP:DIP-28_W7.62mm; Supplier: http://ww1.microchip.com/downloads/en/DeviceDoc/40001943A.pdf
footprint DIP-28_W7.62mm
pins: 1 VPP/~{{MCLR}/RE3} (in), 2 RA0 (io), 3 RA1 (io), 4 RA2 (io), 5 RA3 (io), 6 RA4 (io), 7 RA5 (io), 8 VSS (power), 9 OSC1_CLKIN/RA7 (io), 10 OSC2_CLKOUT/RA6 (io), 11 RC0/SOSCO (io), 12 RC1/SOSCI (io), 13 RC2 (io), 14 RC3 (io), 15 RC4 (io), 16 RC5 (io), 17 RC6 (io), 18 RC7 (io), 19 VSS hidden, 20 VDD (power), 21 RB0 (io), 22 RB1 (io), 23 RB2 (io), 24 RB3 (io), 25 RB4 (io), 26 RB5 (io), 27 ICSPCLK/RB6 (io), 28 ICSPDAT/RB7 (io)

## PIC18F27J53_ISS
designator *  value PIC18F27J53_ISS
ki_keywords: microcontroller PIC18 flash ECAN XLP nanoWatt; ki_description: 128K Flash, 3.8K RAM, PIC18 Microcontroller ADC PWM I2C USART USB RTCC, SSOP-28; ki_fp_filters: SSOP*5.3x10.2mm*P0.65mm*; Footprint: Package_SO:SSOP-28_5.3x10.2mm_P0.65mm; Supplier: http://ww1.microchip.com/downloads/en/DeviceDoc/30009964C.pdf
footprint SSOP-28_5.3x10.2mm_P0.65mm
pins: 1 ~{{MCLR}} (in), 2 RA0/AN0 (io), 3 RA1/AN1 (io), 4 RA2/AN2 (io), 5 RA3/AN3 (io), 6 VDDCORE/VCAP (power), 7 RA5/AN4 (io), 8 VSS (power), 9 OSC1/CLKI/RA7 (io), 10 OSC2/CLKO/RA6 (io), 11 RC0/T1OSO (io), 12 RC1/T1OSI (io), 13 RC2/AN11 (io), 14 VUSB (power), 15 RC4/D- (io), 16 RC5/D+ (io), 17 RC6/TX1 (io), 18 RC7/RX1 (io), 19 VSS hidden, 20 VDD (power), 21 RB0/AN12 (io), 22 RB1/AN10 (io), 23 RB2/AN8 (io), 24 RB3/AN9 (io), 25 RB4/SCL1 (io), 26 RB5/SDA1 (io), 27 RB6/PGC (io), 28 RB7/PGD (io)

## PIC18F44J10-IP
designator *  value PIC18F44J10-IP
ki_keywords: Flash-Based 8-Bit Microcontroller; ki_description: 16K Flash, 1K SRAM, ADC, DIP40; ki_fp_filters: DIP*W15.24mm* PDIP*W15.24mm*; Footprint: Package_DIP:DIP-40_W15.24mm; Supplier: http://ww1.microchip.com/downloads/en/DeviceDoc/39682E.pdf
footprint DIP-40_W15.24mm
pins: 1 ~{{MCLR}} (in), 2 RA0/AN0 (hiz), 3 RA1/AN1 (hiz), 4 RA2/AN2/Vref-/CVref (hiz), 5 RA3/AN3/Vref+ (hiz), 6 VDDCORE/VCAP, 7 RA5/AN4/~{{SS1}/C2OUT} (hiz), 8 ~{{RD}/AN5/RE0} (hiz), 9 ~{{WR}/AN6/RE1} (hiz), 10 ~{{CS}/AN7/RE2} (hiz), 11 VDD (power), 12 VSS (power), 13 OSC1/CLKI (in), 14 OSC2/CLK0 (out), 15 T1OSO/T1CKI/RC0 (hiz), 16 T1OSI/CCP2/RC1 (hiz), 17 P1A/CCP1/RC2 (hiz), 18 SCK1/SCL1/RC3 (hiz), 19 PSP0/SCK2/SCL2/RD0 (hiz), 20 PSP1/SDI2/SDA2/RD1 (hiz), 21 PSP2/SDO2/RD2 (hiz), 22 PSP3/~{{SS2}/RD3} (hiz), 23 SDI1/SDA1/RC4 (hiz), 24 SDO1/RC5 (hiz), 25 TX/CK/RC6 (hiz), 26 RX/DT/RC7 (hiz), 27 PSP4/RD4 (hiz), 28 PSP5/P1B/RD5 (hiz), 29 PSP6/P1C/RD6 (hiz), 30 PSP7/P1D/RD7 (hiz), 31 VSS (power), 32 VDD (power), 33 RB0/INT0/FLT0/AN12 (hiz), 34 RB1/INT1/AN10 (hiz), 35 RB2/INT2/AN8 (hiz), 36 RB3/CCP2/AN9 (hiz), 37 RB4/KBI0/AN11 (hiz), 38 RB5/KBI1/T0CKI/C1OUT (hiz), 39 RB6/KBI2/PGC (hiz), 40 RB7/KBI3/PGD (hiz)

## PIC18F45J10-IP
designator *  value PIC18F45J10-IP
ki_keywords: Flash-Based 8-Bit Microcontroller; ki_description: 32K Flash, 1K SRAM, ADC, DIP40; ki_fp_filters: DIP*W15.24mm* PDIP*W15.24mm*; Footprint: Package_DIP:DIP-40_W15.24mm; Supplier: http://ww1.microchip.com/downloads/en/DeviceDoc/39682E.pdf
footprint DIP-40_W15.24mm
pins: 1 ~{{MCLR}} (in), 2 RA0/AN0 (hiz), 3 RA1/AN1 (hiz), 4 RA2/AN2/Vref-/CVref (hiz), 5 RA3/AN3/Vref+ (hiz), 6 VDDCORE/VCAP, 7 RA5/AN4/~{{SS1}/C2OUT} (hiz), 8 ~{{RD}/AN5/RE0} (hiz), 9 ~{{WR}/AN6/RE1} (hiz), 10 ~{{CS}/AN7/RE2} (hiz), 11 VDD (power), 12 VSS (power), 13 OSC1/CLKI (in), 14 OSC2/CLK0 (out), 15 T1OSO/T1CKI/RC0 (hiz), 16 T1OSI/CCP2/RC1 (hiz), 17 P1A/CCP1/RC2 (hiz), 18 SCK1/SCL1/RC3 (hiz), 19 PSP0/SCK2/SCL2/RD0 (hiz), 20 PSP1/SDI2/SDA2/RD1 (hiz), 21 PSP2/SDO2/RD2 (hiz), 22 PSP3/~{{SS2}/RD3} (hiz), 23 SDI1/SDA1/RC4 (hiz), 24 SDO1/RC5 (hiz), 25 TX/CK/RC6 (hiz), 26 RX/DT/RC7 (hiz), 27 PSP4/RD4 (hiz), 28 PSP5/P1B/RD5 (hiz), 29 PSP6/P1C/RD6 (hiz), 30 PSP7/P1D/RD7 (hiz), 31 VSS (power), 32 VDD (power), 33 RB0/INT0/FLT0/AN12 (hiz), 34 RB1/INT1/AN10 (hiz), 35 RB2/INT2/AN8 (hiz), 36 RB3/CCP2/AN9 (hiz), 37 RB4/KBI0/AN11 (hiz), 38 RB5/KBI1/T0CKI/C1OUT (hiz), 39 RB6/KBI2/PGC (hiz), 40 RB7/KBI3/PGD (hiz)

## PIC18F45K50_QFP
designator *  value PIC18F45K50_QFP
ki_keywords: microcontroller Flash EEPROM SPI I2C USB UART USART ADC TQFP; ki_description: 32K Flash, 2K RAM, 256B EEPROM, Microchip PIC18F series enhanced flash microcontroller with USB in TQFP-44 package; ki_fp_filters: TQFP*10x10mm*P0.8mm*; Footprint: Package_QFP:TQFP-44_10x10mm_P0.8mm; Supplier: http://ww1.microchip.com/downloads/en/DeviceDoc/30000684B.pdf
footprint TQFP-44_10x10mm_P0.8mm
pins: 1 RC7/AN19/RX/DT/IOCC7 (io), 2 RD4/AN24 (io), 3 RD5/P1B/AN25 (io), 4 RD6/P1C/AN26 (io), 5 RD7/P1D/AN27 (io), 6 VSS (power), 7 VDD (power), 8 AN12/SRI/~{{FLT0}/SDI/SDA/INT0/RB0} (io), 9 AN10/C12IN3-/SCK/SCL/INT1/RB1 (io), 10 AN8/CTED1/INT2/RB2 (io), 11 AN9/C12IN2-/CTED2/CCP2/SDO/RB3 (io), 12 ICPGC/ICCK/NC (io), 13 ICPGD/ICDT/NC (io), 14 AN11/IOCB4/RB4 (io), 15 AN13/T1G/T3CKI/IOCB5/RB5 (io), 16 PGC/IOCB6/RB6 (io), 17 PGD/IOCB7/RB7 (io), 18 ~{{MCLR}/VPP/RE3} (in), 19 AN0/C12IN0-/RA0 (io), 20 AN1/C12IN1-/CTCMP/RA1 (io), 21 VREF-/DACOUT/AN2/C2IN+/RA2 (io), 22 VREF+/AN3/C1IN+/RA3 (io), 23 C1OUT/SRQ/T0CKI/RA4 (io), 24 AN4/HLVDIN/SRNQ/C2OUT/~{{SS}/RA5} (io), 25 RE0/AN5 (io), 26 RE1/AN6 (io), 27 RE2/AN7 (io), 28 VDD (power), 29 VSS (power), 30 OSC1/CLKI/RA7 (io), 31 OSC2/CLKO/RA6 (io), 32 RC0/SOSCO/T1CKI/T3CKI/T3G/IOCC0 (io), 33 ICVPP/ICRST/NC (io), 34 NC (in) hidden, 35 RC1/SOSCI/CCP2/IOCC1 (io), 36 RC2/AN14/CTPLS/CCP1/P1A/IOCC2 (io), 37 VUSB3V3/VDDCORE (power), 38 RD0/AN20 (io), 39 RD1/AN21 (io), 40 RD2/AN22 (io), 41 RD3/AN23 (io), 42 D-/IOCC4 (io), 43 D+/IOCC5 (io), 44 RC6/AN18/TX/CK/IOCC6 (io)

## PIC18F45K80-IML
designator *  value PIC18F45K80-IML
ki_keywords: microcontroller Flash EEPROM SPI I2C CAN UART USART ADC; ki_description: 32K Flash, 3.5K RAM, 1K EEPROM, Microchip PIC18F series enhanced flash microcontroller with ECAN and nanoWatt XLP Technology in QFN-44 package; ki_fp_filters: QFN*1EP*8x8mm*P0.65mm*; Footprint: Package_DFN_QFN:QFN-44-1EP_8x8mm_P0.65mm_EP6.45x6.45mm; Supplier: http://ww1.microchip.com/downloads/en/DeviceDoc/PIC18F66K80%20FAMILY%20Enhanced%20Flash%20MCU%20with%20ECAN%20XLP%20Technology%2030009977G.pdf
footprint QFN-44-1EP_8x8mm_P0.65mm_EP6.45x6.45mm
pins: 1 CANRX/RX1/CCP4/RC7 (io), 2 ECCP1/PSP4/RD4 (io), 3 PSP5/RD5 (io), 4 TX2/PSP6/RD6 (io), 5 RX2/PSP7/RD7 (io), 6 Vss (power), 7 Vdd (power), 8 RB0/AN10/INT0 (io), 9 RB1/AN8/INT1 (io), 10 RB2/CANTX/INT2 (io), 11 RB3/CANRX/INT3 (io), 12 NC (in) hidden, 13 NC (in) hidden, 14 RB4/AN9 (io), 15 RB5/CCP5 (io), 16 RB6/PGC (io), 17 RB7/PGD (io), 18 ~{{MLCR}/RE3} (io), 19 RA0/CVref/AN0 (io), 20 RA1/AN1 (io), 21 RA2/Vref-/AN2 (io), 22 RA3/Vref+/AN3 (io), 23 Vddcore/Vcap (power), 24 RA5/AN4 (io), 25 RE0/AN5 (io), 26 RE1/AN6 (io), 27 RE2/AN7 (io), 28 Vdd (power), 29 Vss (power), 30 OSC1/CLKIN/RA7 (in), 31 OSC2/CLKOUT/RA6 (in), 32 RC0 (io), 33 NC (in) hidden, 34 NC (in) hidden, 35 RC1 (io), 36 CCP2/RC2 (io), 37 SCL/SCK/RC3 (io), 38 C1INA/PSP0/RD0 (io), 39 C1INB/PSP1/RD1 (io), 40 C2INA/PSP2/RD2 (io), 41 C2INB/PSP3/RD3 (io), 42 SDA/SDI/RC4 (io), 43 SDO/RC5 (io), 44 CANTX/TX1/CCP3/RC6 (io), 45 PAD (power)

## PIC18F45K80-IPT
designator *  value PIC18F45K80-IPT
ki_keywords: microcontroller Flash EEPROM SPI I2C CAN UART USART ADC TQFP; ki_description: 32K Flash, 3.5K RAM, 1K EEPROM, Microchip PIC18F series enhanced flash microcontroller with ECAN and nanoWatt XLP Technology in TQFP-44 package; ki_fp_filters: TQFP*10x10mm*P0.8mm*; Footprint: Package_QFP:TQFP-44_10x10mm_P0.8mm; Supplier: http://ww1.microchip.com/downloads/en/DeviceDoc/39977f.pdf
footprint TQFP-44_10x10mm_P0.8mm
pins: 1 RC7/CANRX/RX1/DT1/CCP4 (io), 2 RD4/ECCP1/P1A/PSP4 (io), 3 RD5/P1B/PSP5 (io), 4 RD6/TX2/CK2/P1C/PSP6 (io), 5 RD7/RX2/DT2/P1D/PSP7 (io), 6 VSS (power), 7 VDD (power), 8 AN10/FLT0/INT0/RB0 (io), 9 AN8/CTDIN/INT1/RB1 (io), 10 CANTX/CTED1/INT2/RB2 (io), 11 CANRX/CTED2/INT3/RB3 (io), 12 N/C (io), 13 N/C (io), 14 AN9/CTPLS/KBI0/RB4 (io), 15 T0CKI/T3CKI/CCP5/KBI1/RB5 (io), 16 PGC/KBI2/RB6 (io), 17 PGD/T3G/KBI3/RB7 (io), 18 ~{{MCLR}/RE3} (in), 19 CVref/AN0/ULPWU/RA0 (io), 20 AN1/C1INC/RA1 (io), 21 VREF-/AN2/C2INC/RA2 (io), 22 Vref+/AN3/RA3 (io), 23 VDDCORE/VCAP, 24 AN4/HLVDIN/T1CKI/~{{SS}/RA5} (io), 25 RE0/AN5/~{{RD}} (io), 26 RE1/AN6/C1OUT/~{{WR}} (io), 27 RE2/AN7/C2OUT/~{{CS}} (power), 28 VDD (power), 29 VSS (power), 30 OSC1/CLKIN/RA7 (in), 31 OSC2/CLKOUT/RA6 (out), 32 RC0/SOSCO/SCLKI (io), 33 N/C (io), 34 N/C (io), 35 RC1/SOSCI (io), 36 RC2/T1G/CCP2 (io), 37 RC3/REFO/SCL/SCK (io), 38 RD0/C1INA/PSP0 (io), 39 RD1/C1INB/PSP1 (io), 40 RD2/C2INA/PSP2 (io), 41 RD3/C2INB/CTMUI/PSP3 (io), 42 RC4/SDA/SDI (io), 43 RC5/SDO (io), 44 RC6/CANTX/TX1/CK1/CCP3 (io)

## PIC18F46K22-xPT
designator *  value PIC18F46K22-xPT
ki_keywords: microchip microcontroller PIC18 flash XLP nanoWatt; ki_description: 64K Flash, 3.5K RAM, 1K EEPROM PIC18 Microcontroller ADC PWM SPI I2C USART in TQFP44 package; ki_fp_filters: TQFP*10x10mm*P0.8mm*; Footprint: Package_QFP:TQFP-44_10x10mm_P0.8mm; Supplier: http://ww1.microchip.com/downloads/en/DeviceDoc/40001412G.pdf
footprint TQFP-44_10x10mm_P0.8mm
pins: 1 RC7/RX1/DT1/AN19 (io), 2 RD4/P2D/SDO2/AN24 (io), 3 RD5/P1B/AN25 (io), 4 RD6/TX2/CK2/P1C/AN26 (io), 5 RD7/RX2/DT2/P1D/AN27 (io), 6 VSS (power), 7 VDD (power), 8 AN12/FLT0/INT0/RB0 (io), 9 AN10/C12IN3-/CTDIN/INT1/RB1 (io), 10 AN8/CTED1/INT2/RB2 (io), 11 AN9/C12IN2-/CTED2/RB3 (io), 12 NC (in) hidden, 13 NC (in) hidden, 14 AN11/T5G/IOC/RB4 (io), 15 AN13/CCP3/IOC/RB5 (io), 16 PGC/IOC/RB6 (io), 17 PGD/IOC/RB7 (io), 18 ~{{MCLR}/VPP/RE3} (io), 19 AN0/C12IN0-/RA0 (io), 20 AN1/C12INC1-/RA1 (io), 21 VREF-/AN2/C2IN+/RA2 (io), 22 VREF+/AN3/C1IN+/RA3 (io), 23 C1OUT/SRQ/T0CKI/RA4 (io), 24 AN4/C2OUT/SRQN/~{{SS1}/RA5} (io), 25 RE0/P3A/AN5 (io), 26 RE1/P3B/AN6 (io), 27 RE2/CCP5/AN7 (io), 28 VDD hidden, 29 VSS hidden, 30 OSC1/CLKIN/RA7 (io), 31 OSC2/CLKOUT/RA6 (io), 32 RC0/P2B/SOSCO/SCLKI (io), 33 NC (in) hidden, 34 NC (in) hidden, 35 RC1/SOSCI/P2A (io), 36 RC2/T1G/CCP2/AN14 (io), 37 RC3/REFO/SCL1/SCK1/AN15 (io), 38 RD0/SCL2/SCK2/AN20 (io), 39 RD1/SDI1/SDA2/AN21 (io), 40 RD2/P2B/AN22 (io), 41 RD3/P2C/~{{SS2}/AN23} (io), 42 RC4/SDA1/SDI1/AN16 (io), 43 RC5/SDO1/AN17 (io), 44 RC6/TX1/CK1/AN18 (io)

## PIC18F46K80-IML
designator *  value PIC18F46K80-IML
ki_keywords: microcontroller PIC18 flash ECAN XLP nanoWatt; ki_description: 64K Flash, 3.5K RAM, 1K EEPROM PIC18 Microcontroller ADC PWM CAN SPI I2C USART in QFN44 package; ki_fp_filters: QFN*1EP*8x8mm*P0.65mm*; Footprint: Package_DFN_QFN:QFN-44-1EP_8x8mm_P0.65mm_EP6.45x6.45mm; Supplier: http://ww1.microchip.com/downloads/en/DeviceDoc/39977f.pdf
footprint QFN-44-1EP_8x8mm_P0.65mm_EP6.45x6.45mm
pins: 1 CANRX/RX1/CCP4/RC7 (io), 2 ECCP1/PSP4/RD4 (io), 3 PSP5/RD5 (io), 4 TX2/PSP6/RD6 (io), 5 RX2/PSP7/RD7 (io), 6 Vss (power), 7 Vdd (power), 8 RB0/AN10/INT0 (io), 9 RB1/AN8/INT1 (io), 10 RB2/CANTX/INT2 (io), 11 RB3/CANRX/INT3 (io), 12 NC (in) hidden, 13 NC (in) hidden, 14 RB4/AN9 (io), 15 RB5/CCP5 (io), 16 RB6/PGC (io), 17 RB7/PGD (io), 18 ~{{MLCR}/RE3} (io), 19 RA0/CVref/AN0 (io), 20 RA1/AN1 (io), 21 RA2/Vref-/AN2 (io), 22 RA3/Vref+/AN3 (io), 23 Vddcore/Vcap (power), 24 RA5/AN4 (io), 25 RE0/AN5 (io), 26 RE1/AN6 (io), 27 RE2/AN7 (io), 28 Vdd (power), 29 Vss (power), 30 OSC1/CLKIN/RA7 (in), 31 OSC2/CLKOUT/RA6 (in), 32 RC0 (io), 33 NC (in) hidden, 34 NC (in) hidden, 35 RC1 (io), 36 CCP2/RC2 (io), 37 SCL/SCK/RC3 (io), 38 C1INA/PSP0/RD0 (io), 39 C1INB/PSP1/RD1 (io), 40 C2INA/PSP2/RD2 (io), 41 C2INB/PSP3/RD3 (io), 42 SDA/SDI/RC4 (io), 43 SDO/RC5 (io), 44 CANTX/TX1/CCP3/RC6 (io), 45 PAD (power)

## PIC18F46K80-IPT
designator *  value PIC18F46K80-IPT
ki_keywords: microchip microcontroller PIC18 flash ECAN XLP nanoWatt; ki_description: 64K Flash, 3.5K RAM, 1K EEPROM PIC18 Microcontroller ADC PWM CAN SPI I2C USART in TQFP44 package; ki_fp_filters: TQFP*10x10mm*P0.8mm*; Footprint: Package_QFP:TQFP-44_10x10mm_P0.8mm; Supplier: http://ww1.microchip.com/downloads/en/DeviceDoc/39977f.pdf
footprint TQFP-44_10x10mm_P0.8mm
pins: 1 RC7/CANRX/RX1/DT1/CCP4 (io), 2 RD4/ECCP1/P1A/PSP4 (io), 3 RD5/P1B/PSP5 (io), 4 RD6/TX2/CK2/P1C/PSP6 (io), 5 RD7/RX2/DT2/P1D/PSP7 (io), 6 VSS (power), 7 VDD (power), 8 AN10/FLT0/INT0/RB0 (io), 9 AN8/CTDIN/INT1/RB1 (io), 10 CANTX/CTED1/INT2/RB2 (io), 11 CANRX/CTED2/INT3/RB3 (io), 12 N/C (io), 13 N/C (io), 14 AN9/CTPLS/KBI0/RB4 (io), 15 T0CKI/T3CKI/CCP5/KBI1/RB5 (io), 16 PGC/KBI2/RB6 (io), 17 PGD/T3G/KBI3/RB7 (io), 18 ~{{MCLR}/RE3} (in), 19 CVref/AN0/ULPWU/RA0 (io), 20 AN1/C1INC/RA1 (io), 21 VREF-/AN2/C2INC/RA2 (io), 22 Vref+/AN3/RA3 (io), 23 VDDCORE/VCAP, 24 AN4/HLVDIN/T1CKI/~{{SS}/RA5} (io), 25 RE0/AN5/~{{RD}} (io), 26 RE1/AN6/C1OUT/~{{WR}} (io), 27 RE2/AN7/C2OUT/~{{CS}} (power), 28 VDD (power), 29 VSS (power), 30 OSC1/CLKIN/RA7 (in), 31 OSC2/CLKOUT/RA6 (out), 32 RC0/SOSCO/SCLKI (io), 33 N/C (io), 34 N/C (io), 35 RC1/SOSCI (io), 36 RC2/T1G/CCP2 (io), 37 RC3/REFO/SCL/SCK (io), 38 RD0/C1INA/PSP0 (io), 39 RD1/C1INB/PSP1 (io), 40 RD2/C2INA/PSP2 (io), 41 RD3/C2INB/CTMUI/PSP3 (io), 42 RC4/SDA/SDI (io), 43 RC5/SDO (io), 44 RC6/CANTX/TX1/CK1/CCP3 (io)

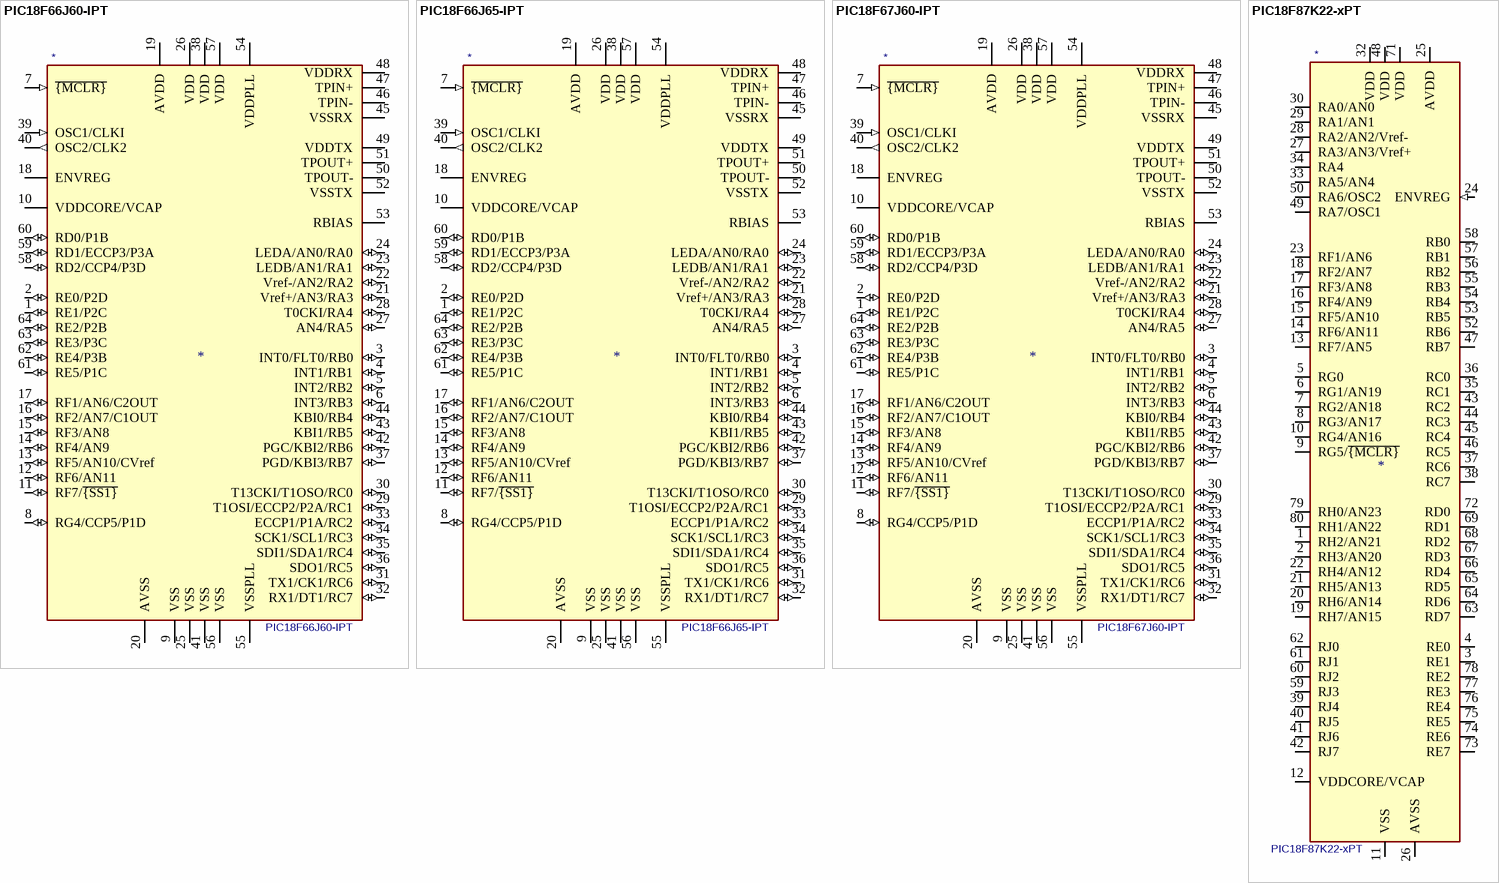
[diagram p3: symbols PIC18F66J60-IPT to PIC18F87K22-xPT]

## PIC18F66J60-IPT
designator *  value PIC18F66J60-IPT
ki_keywords: Flash Based 8-Bit Microcontroller Ethernet Controller PHY; ki_description: 64K Flash, 3.7K SRAM, Ethernet Controller with PHY, 8K Buffer, TQFP64; ki_fp_filters: TQFP*10x10mm*P0.5mm*; Footprint: Package_QFP:TQFP-64_10x10mm_P0.5mm; Supplier: http://ww1.microchip.com/downloads/en/DeviceDoc/39762f.pdf
footprint TQFP-64_10x10mm_P0.5mm
pins: 1 RE1/P2C (io), 2 RE0/P2D (io), 3 INT0/FLT0/RB0 (io), 4 INT1/RB1 (io), 5 INT2/RB2 (io), 6 INT3/RB3 (io), 7 ~{{MCLR}} (in), 8 RG4/CCP5/P1D (io), 9 VSS (power), 10 VDDCORE/VCAP, 11 RF7/~{{SS1}} (io), 12 RF6/AN11 (io), 13 RF5/AN10/CVref (io), 14 RF4/AN9 (io), 15 RF3/AN8 (io), 16 RF2/AN7/C1OUT (io), 17 RF1/AN6/C2OUT (io), 18 ENVREG, 19 AVDD (power), 20 AVSS (power), 21 Vref+/AN3/RA3 (io), 22 Vref-/AN2/RA2 (io), 23 LEDB/AN1/RA1 (io), 24 LEDA/AN0/RA0 (io), 25 VSS (power), 26 VDD (power), 27 AN4/RA5 (io), 28 T0CKI/RA4 (io), 29 T1OSI/ECCP2/P2A/RC1 (io), 30 T13CKI/T1OSO/RC0 (io), 31 TX1/CK1/RC6 (io), 32 RX1/DT1/RC7 (io), 33 ECCP1/P1A/RC2 (io), 34 SCK1/SCL1/RC3 (io), 35 SDI1/SDA1/RC4 (io), 36 SDO1/RC5 (io), 37 PGD/KBI3/RB7 (io), 38 VDD (power), 39 OSC1/CLKI (in), 40 OSC2/CLK2 (out), 41 VSS (power), 42 PGC/KBI2/RB6 (io), 43 KBI1/RB5 (io), 44 KBI0/RB4 (io), 45 VSSRX (power), 46 TPIN-, 47 TPIN+, 48 VDDRX (power), 49 VDDTX (power), 50 TPOUT-, 51 TPOUT+, 52 VSSTX (power), 53 RBIAS, 54 VDDPLL (power), 55 VSSPLL (power), 56 VSS (power), 57 VDD (power), 58 RD2/CCP4/P3D (io), 59 RD1/ECCP3/P3A (io), 60 RD0/P1B (io), 61 RE5/P1C (io), 62 RE4/P3B (io), 63 RE3/P3C (io), 64 RE2/P2B (io)

## PIC18F66J65-IPT
designator *  value PIC18F66J65-IPT
ki_keywords: Flash Based 8-Bit Microcontroller Ethernet Controller PHY; ki_description: 96K Flash, 3.7K SRAM, Ethernet Controller with PHY, 8K Buffer, TQFP64; ki_fp_filters: TQFP*10x10mm*P0.5mm*; Footprint: Package_QFP:TQFP-64_10x10mm_P0.5mm; Supplier: http://ww1.microchip.com/downloads/en/DeviceDoc/39762f.pdf
footprint TQFP-64_10x10mm_P0.5mm
pins: 1 RE1/P2C (io), 2 RE0/P2D (io), 3 INT0/FLT0/RB0 (io), 4 INT1/RB1 (io), 5 INT2/RB2 (io), 6 INT3/RB3 (io), 7 ~{{MCLR}} (in), 8 RG4/CCP5/P1D (io), 9 VSS (power), 10 VDDCORE/VCAP, 11 RF7/~{{SS1}} (io), 12 RF6/AN11 (io), 13 RF5/AN10/CVref (io), 14 RF4/AN9 (io), 15 RF3/AN8 (io), 16 RF2/AN7/C1OUT (io), 17 RF1/AN6/C2OUT (io), 18 ENVREG, 19 AVDD (power), 20 AVSS (power), 21 Vref+/AN3/RA3 (io), 22 Vref-/AN2/RA2 (io), 23 LEDB/AN1/RA1 (io), 24 LEDA/AN0/RA0 (io), 25 VSS (power), 26 VDD (power), 27 AN4/RA5 (io), 28 T0CKI/RA4 (io), 29 T1OSI/ECCP2/P2A/RC1 (io), 30 T13CKI/T1OSO/RC0 (io), 31 TX1/CK1/RC6 (io), 32 RX1/DT1/RC7 (io), 33 ECCP1/P1A/RC2 (io), 34 SCK1/SCL1/RC3 (io), 35 SDI1/SDA1/RC4 (io), 36 SDO1/RC5 (io), 37 PGD/KBI3/RB7 (io), 38 VDD (power), 39 OSC1/CLKI (in), 40 OSC2/CLK2 (out), 41 VSS (power), 42 PGC/KBI2/RB6 (io), 43 KBI1/RB5 (io), 44 KBI0/RB4 (io), 45 VSSRX (power), 46 TPIN-, 47 TPIN+, 48 VDDRX (power), 49 VDDTX (power), 50 TPOUT-, 51 TPOUT+, 52 VSSTX (power), 53 RBIAS, 54 VDDPLL (power), 55 VSSPLL (power), 56 VSS (power), 57 VDD (power), 58 RD2/CCP4/P3D (io), 59 RD1/ECCP3/P3A (io), 60 RD0/P1B (io), 61 RE5/P1C (io), 62 RE4/P3B (io), 63 RE3/P3C (io), 64 RE2/P2B (io)

## PIC18F67J60-IPT
designator *  value PIC18F67J60-IPT
ki_keywords: Flash Based 8-Bit Microcontroller Ethernet Controller PHY; ki_description: 128K Flash, 3.7K SRAM, Ethernet Controller with PHY, 8K Buffer, TQFP64; ki_fp_filters: TQFP*10x10mm*P0.5mm*; Footprint: Package_QFP:TQFP-64_10x10mm_P0.5mm; Supplier: http://ww1.microchip.com/downloads/en/DeviceDoc/39762f.pdf
footprint TQFP-64_10x10mm_P0.5mm
pins: 1 RE1/P2C (io), 2 RE0/P2D (io), 3 INT0/FLT0/RB0 (io), 4 INT1/RB1 (io), 5 INT2/RB2 (io), 6 INT3/RB3 (io), 7 ~{{MCLR}} (in), 8 RG4/CCP5/P1D (io), 9 VSS (power), 10 VDDCORE/VCAP, 11 RF7/~{{SS1}} (io), 12 RF6/AN11 (io), 13 RF5/AN10/CVref (io), 14 RF4/AN9 (io), 15 RF3/AN8 (io), 16 RF2/AN7/C1OUT (io), 17 RF1/AN6/C2OUT (io), 18 ENVREG, 19 AVDD (power), 20 AVSS (power), 21 Vref+/AN3/RA3 (io), 22 Vref-/AN2/RA2 (io), 23 LEDB/AN1/RA1 (io), 24 LEDA/AN0/RA0 (io), 25 VSS (power), 26 VDD (power), 27 AN4/RA5 (io), 28 T0CKI/RA4 (io), 29 T1OSI/ECCP2/P2A/RC1 (io), 30 T13CKI/T1OSO/RC0 (io), 31 TX1/CK1/RC6 (io), 32 RX1/DT1/RC7 (io), 33 ECCP1/P1A/RC2 (io), 34 SCK1/SCL1/RC3 (io), 35 SDI1/SDA1/RC4 (io), 36 SDO1/RC5 (io), 37 PGD/KBI3/RB7 (io), 38 VDD (power), 39 OSC1/CLKI (in), 40 OSC2/CLK2 (out), 41 VSS (power), 42 PGC/KBI2/RB6 (io), 43 KBI1/RB5 (io), 44 KBI0/RB4 (io), 45 VSSRX (power), 46 TPIN-, 47 TPIN+, 48 VDDRX (power), 49 VDDTX (power), 50 TPOUT-, 51 TPOUT+, 52 VSSTX (power), 53 RBIAS, 54 VDDPLL (power), 55 VSSPLL (power), 56 VSS (power), 57 VDD (power), 58 RD2/CCP4/P3D (io), 59 RD1/ECCP3/P3A (io), 60 RD0/P1B (io), 61 RE5/P1C (io), 62 RE4/P3B (io), 63 RE3/P3C (io), 64 RE2/P2B (io)

## PIC18F87K22-xPT
designator *  value PIC18F87K22-xPT
ki_keywords: Flash Based 8-Bit Microcontroller; ki_description: PIC18F nanoWatt XLP Technology MCU, 64MHz, 128KB Flash, 4KB RAM, 1KB EEPROM, 1.8-5.5V, 69 GPIO, TQFP-80; ki_fp_filters: TQFP*12x12mm*P0.5mm*; Footprint: Package_QFP:TQFP-80_12x12mm_P0.5mm; Supplier: http://ww1.microchip.com/downloads/en/DeviceDoc/39960d.pdf
footprint TQFP-80_12x12mm_P0.5mm
pins: 1 RH2/AN21 (io), 2 RH3/AN20 (io), 3 RE1 (io), 4 RE0 (io), 5 RG0 (io), 6 RG1/AN19 (io), 7 RG2/AN18 (io), 8 RG3/AN17 (io), 9 RG5/~{{MCLR}} (io), 10 RG4/AN16 (io), 11 VSS (power), 12 VDDCORE/VCAP, 13 RF7/AN5 (io), 14 RF6/AN11 (io), 15 RF5/AN10 (io), 16 RF4/AN9 (io), 17 RF3/AN8 (io), 18 RF2/AN7 (io), 19 RH7/AN15 (io), 20 RH6/AN14 (io), 21 RH5/AN13 (io), 22 RH4/AN12 (io), 23 RF1/AN6 (io), 24 ENVREG (in), 25 AVDD (power), 26 AVSS (power), 27 RA3/AN3/Vref+ (io), 28 RA2/AN2/Vref- (io), 29 RA1/AN1 (io), 30 RA0/AN0 (io), 31 VSS hidden, 32 VDD (power), 33 RA5/AN4 (io), 34 RA4 (io), 35 RC1 (io), 36 RC0 (io), 37 RC6 (io), 38 RC7 (io), 39 RJ4 (io), 40 RJ5 (io), 41 RJ6 (io), 42 RJ7 (io), 43 RC2 (io), 44 RC3 (io), 45 RC4 (io), 46 RC5 (io), 47 RB7 (io), 48 VDD (power), 49 RA7/OSC1 (io), 50 RA6/OSC2 (io), 51 VSS hidden, 52 RB6 (io), 53 RB5 (io), 54 RB4 (io), 55 RB3 (io), 56 RB2 (io), 57 RB1 (io), 58 RB0 (io), 59 RJ3 (io), 60 RJ2 (io), 61 RJ1 (io), 62 RJ0 (io), 63 RD7 (io), 64 RD6 (io), 65 RD5 (io), 66 RD4 (io), 67 RD3 (io), 68 RD2 (io), 69 RD1 (io), 70 VSS hidden, 71 VDD (power), 72 RD0 (io), 73 RE7 (io), 74 RE6 (io), 75 RE5 (io), 76 RE4 (io), 77 RE3 (io), 78 RE2 (io), 79 RH0/AN23 (io), 80 RH1/AN22 (io)

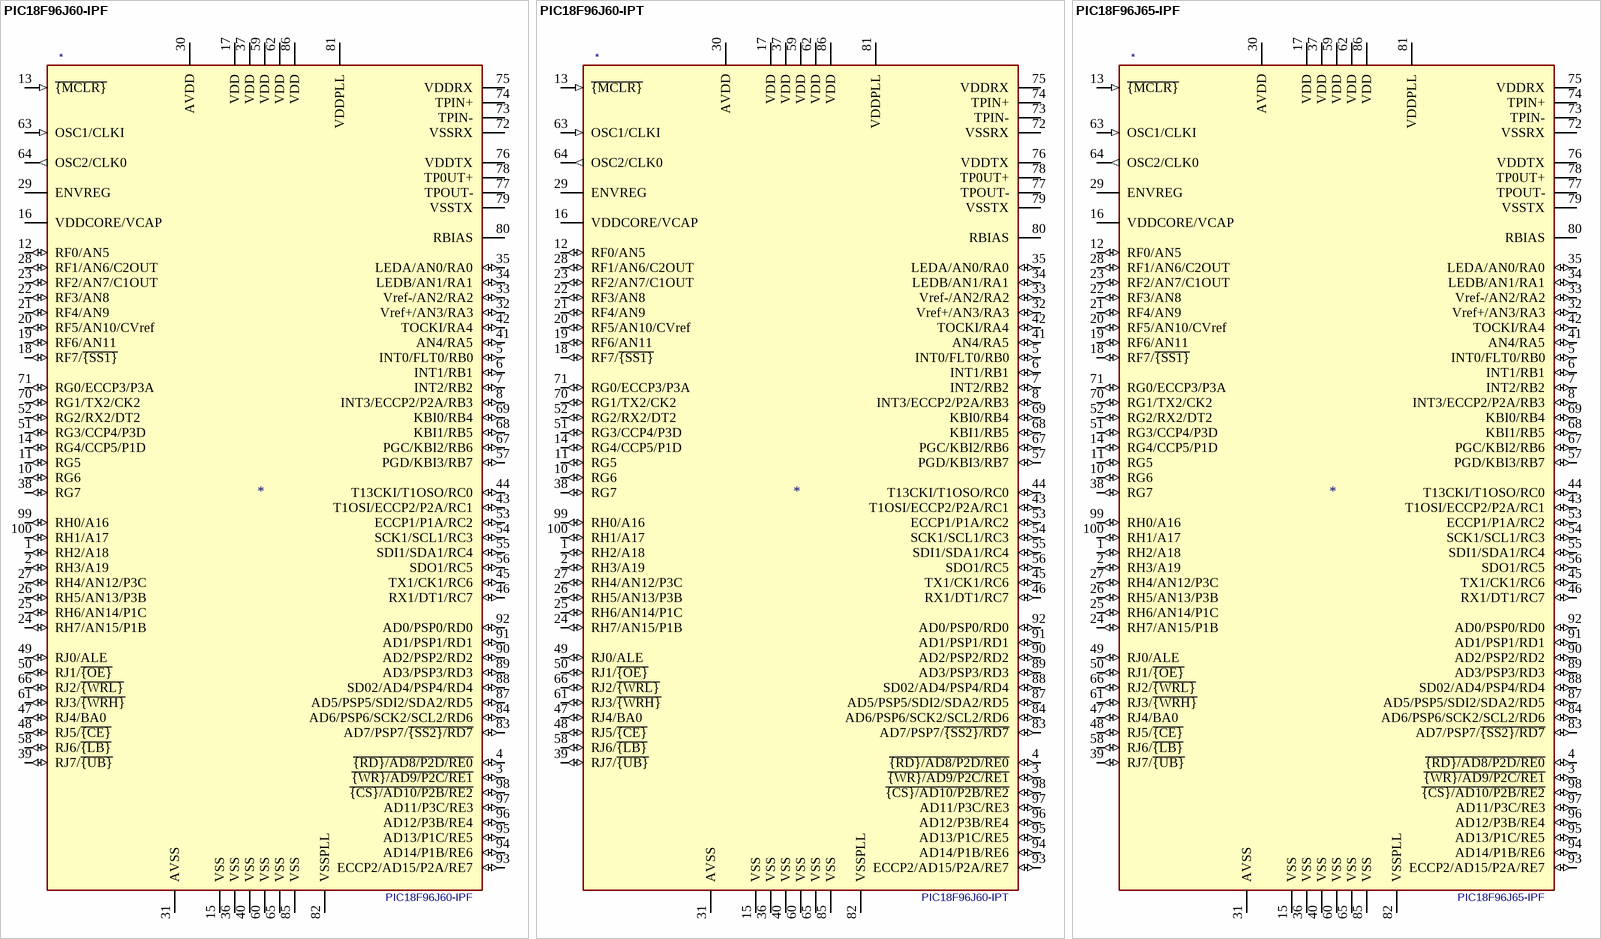
[diagram p4: symbols PIC18F96J60-IPF to PIC18F96J65-IPF]

## PIC18F96J60-IPF
designator *  value PIC18F96J60-IPF
ki_keywords: Flash Based 8-Bit Microcontroller Ethernet Controller PHY; ki_description: 64K Flash, 3.7K SRAM, Ethernet Controller with PHY, 8K Buffer, TQFP100 (14x14mm); ki_fp_filters: TQFP*12x12mm*P0.4mm* TQFP*14x14mm*P0.5mm*; Footprint: Package_QFP:TQFP-100_12x12mm_P0.4mm; Supplier: http://ww1.microchip.com/downloads/en/DeviceDoc/39762f.pdf
footprint TQFP-100_12x12mm_P0.4mm
pins: 1 RH2/A18 (io), 2 RH3/A19 (io), 3 ~{{WR}/AD9/P2C/RE1} (io), 4 ~{{RD}/AD8/P2D/RE0} (io), 5 INT0/FLT0/RB0 (io), 6 INT1/RB1 (io), 7 INT2/RB2 (io), 8 INT3/ECCP2/P2A/RB3 (io), 9 NC (in) hidden, 10 RG6 (io), 11 RG5 (io), 12 RF0/AN5 (io), 13 ~{{MCLR}} (in), 14 RG4/CCP5/P1D (io), 15 VSS (power), 16 VDDCORE/VCAP, 17 VDD (power), 18 RF7/~{{SS1}} (io), 19 RF6/AN11 (io), 20 RF5/AN10/CVref (io), 21 RF4/AN9 (io), 22 RF3/AN8 (io), 23 RF2/AN7/C1OUT (io), 24 RH7/AN15/P1B (io), 25 RH6/AN14/P1C (io), 26 RH5/AN13/P3B (io), 27 RH4/AN12/P3C (io), 28 RF1/AN6/C2OUT (io), 29 ENVREG, 30 AVDD (power), 31 AVSS (power), 32 Vref+/AN3/RA3 (io), 33 Vref-/AN2/RA2 (io), 34 LEDB/AN1/RA1 (io), 35 LEDA/AN0/RA0 (io), 36 VSS (power), 37 VDD (power), 38 RG7 (io), 39 RJ7/~{{UB}} (io), 40 VSS (power), 41 AN4/RA5 (io), 42 TOCKI/RA4 (io), 43 T1OSI/ECCP2/P2A/RC1 (io), 44 T13CKI/T1OSO/RC0 (io), 45 TX1/CK1/RC6 (io), 46 RX1/DT1/RC7 (io), 47 RJ4/BA0 (io), 48 RJ5/~{{CE}} (io), 49 RJ0/ALE (io), 50 RJ1/~{{OE}} (io), 51 RG3/CCP4/P3D (io), 52 RG2/RX2/DT2 (io), 53 ECCP1/P1A/RC2 (io), 54 SCK1/SCL1/RC3 (io), 55 SDI1/SDA1/RC4 (io), 56 SDO1/RC5 (io), 57 PGD/KBI3/RB7 (io), 58 RJ6/~{{LB}} (io), 59 VDD (power), 60 VSS (power), 61 RJ3/~{{WRH}} (io), 62 VDD (power), 63 OSC1/CLKI (in), 64 OSC2/CLK0 (out), 65 VSS (power), 66 RJ2/~{{WRL}} (io), 67 PGC/KBI2/RB6 (io), 68 KBI1/RB5 (io), 69 KBI0/RB4 (io), 70 RG1/TX2/CK2 (io), 71 RG0/ECCP3/P3A (io), 72 VSSRX (power), 73 TPIN-, 74 TPIN+, 75 VDDRX (power), 76 VDDTX (power), 77 TPOUT-, 78 TP0UT+, 79 VSSTX (power), 80 RBIAS, 81 VDDPLL (power), 82 VSSPLL (power), 83 AD7/PSP7/~{{SS2}/RD7} (io), 84 AD6/PSP6/SCK2/SCL2/RD6 (io), 85 VSS (power), 86 VDD (power), 87 AD5/PSP5/SDI2/SDA2/RD5 (io), 88 SD02/AD4/PSP4/RD4 (io), 89 AD3/PSP3/RD3 (io), 90 AD2/PSP2/RD2 (io), 91 AD1/PSP1/RD1 (io), 92 AD0/PSP0/RD0 (io), 93 ECCP2/AD15/P2A/RE7 (io), 94 AD14/P1B/RE6 (io), 95 AD13/P1C/RE5 (io), 96 AD12/P3B/RE4 (io), 97 AD11/P3C/RE3 (io), 98 ~{{CS}/AD10/P2B/RE2} (io), 99 RH0/A16 (io), 100 RH1/A17 (io)